# Altium schematic symbol library SR SCH Library V02.SchLib: 688 symbols (part 1 of 3)
Pins are listed as number, name and electrical type; pins without a type are passive.

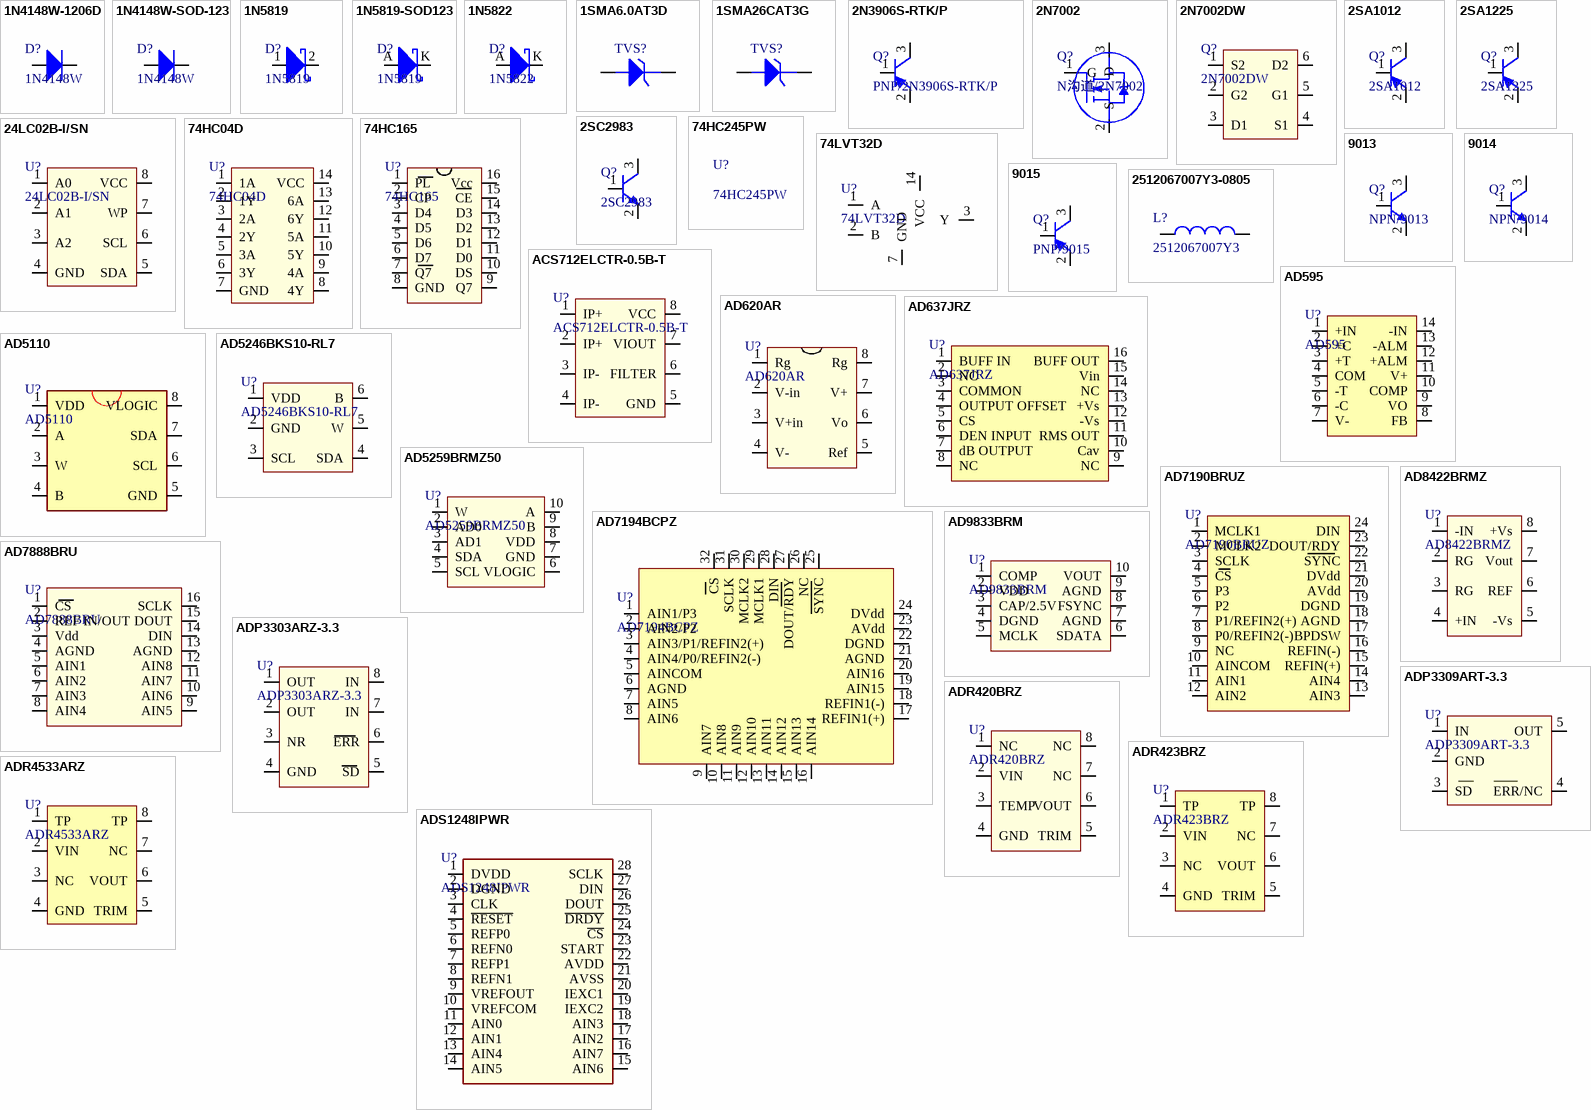
[diagram p0: symbols 1N4148W-1206D to ADS1248IPWR]

## 1N4148W-1206D
designator D?, comment 1N4148W
开关二极管，1N4148W，1206D; 料号: 10402-00001-4J; 品名: 开关二极管
footprint 1206D
pins: 1 A, 2 K

## 1N4148W-SOD-123
designator D?, comment 1N4148W
开关二极管，1N4148W，SOD-123; 料号: 10402-00002-4J; 品名: 开关二极管
footprint SOD-123
pins: A, K

## 1N5819
designator D?
肖特基二极管，1N5819，1206D; 料号: 10404-00002-1J; 品名: 肖特基二极管
footprint 1206D
pins: 1 A, 2 K

## 1N5819-SOD123
designator D?, comment 1N5819
肖特基二极管，1N5819，SOD123; 料号: 10404-00004-00; 品名: 肖特基二极管
footprint SOD-123
pins: A, K

## 1N5822
designator D?
肖特基二极管，1N5822，DO-214AC; 料号: 10404-00001-1J; 品名: 肖特基二极管
footprint DO-214AC(SMA) (SMA)
pins: A, K

## 1SMA6.0AT3D
designator TVS?  (value not drawn)
TVS管，1SMA6.0AT3D，DO214AC封装（SMA）; 料号: 10405-00035-00; 品名: TVS管
footprint DO-214AC
pins: 1, 2

## 1SMA26CAT3G
designator TVS?  (value not drawn)
TVS管，1SMA26CAT3G，DO214AC封装（SMA）; 料号: 10405-00033-00; 品名: TVS管
footprint DO-214AC
pins: 1, 2

## 2N3906S-RTK/P
designator Q?, comment PNP/2N3906S-RTK/P
PNP型三极管，2N3906S-RTK/P ，SOT-23; 料号: 10502-00003-00; 品名: PNP型三极管
footprint SOT-23
pins: 1 B, 2 E, 3 C

## 2N7002
designator Q?, comment N沟道/2N7002
N沟道场效应管，2N7002，SOT-23; 料号: 10503-00003-1H; 品名: N沟道场效应管
footprint SOT-23
pins: 1 G, 2 S, 3 D

## 2N7002DW
designator Q?
双N沟道场效应管,2N7002DW,SOT-363; 料号: 10503-00007-00; 品名: N沟道场效应管
footprint SOT363(SC706L)
pins: 1 S2, 2 G2, 3 D1, 4 S1, 5 G1, 6 D2

## 2SA1012
designator Q?
PNP型三极管，2SA1012 ，SOT-23; 料号: 10502-00004-00; 品名: PNP型三极管
footprint SOT-23
pins: 1 B, 2 E, 3 C

## 2SA1225
designator Q?
PNP型三极管，2SA1225 ，TO-252; 料号: 10502-00005-9J; 品名: 发光二级管
footprint TO-252 DPAK
pins: 1 B, 2 E, 3 C

## 2SC2983
designator Q?
NPN型三极管，2SC2983，TO-252; 料号: 10501-00004-9J; 品名: NPN型三极管
footprint TO-252 DPAK
pins: 1 B, 2 E, 3 C

## 24LC02B-I/SN
designator U?
IC，24LC02B-I/SN，SOP8; 料号: 10603-00002-1J; 品名: 存储器
footprint SOP8 (body:6mm)
pins: 1 A0, 2 A1, 3 A2, 4 GND, 5 SDA, 6 SCL, 7 WP, 8 VCC

## 74HC04D
designator U?
IC，74HC04D，SOP14; 料号: 10607-00004-9H; 品名: 逻辑芯片
footprint SOP14
pins: 1 1A, 2 1Y, 3 2A, 4 2Y, 5 3A, 6 3Y, 7 GND, 8 4Y, 9 4A, 10 5Y, 11 5A, 12 6Y, 13 6A, 14 VCC

## 74HC165
designator U?
IC，74HC165，SOP16; 料号: 10607-00005-9H; 品名: 逻辑芯片
footprint SOP16 (引脚中心距50mil)
pins: 1 PL, 2 CP, 3 D4, 4 D5, 5 D6, 6 D7, 7 Q7, 8 GND, 9 Q7, 10 DS, 11 D0, 12 D1, 13 D2, 14 D3, 15 CE, 16 Vcc

## 74HC245PW
designator U?
IC，74HC245PW，TSSOP20; 料号: 10607-00006-9H; 品名: 逻辑芯片
footprint TSSOP20 (Shrink Small Outline; 20 Leads; Body Width 4.4 mm; Pitch 0.65 mm)

## 74LVT32D
designator U?
IC，74LVT32D，SOP14; 料号: 10607-00003-9H; 品名: 逻辑芯片
footprint SOP14
pins: 1 A, 2 B, 3 Y, 7 GND, 14 VCC

## 9013
designator Q?, comment NPN/9013
NPN型三极管，9013，SOT－23; 料号: 10501-00003-00; 品名: NPN型三极管
footprint SOT-23
pins: 1 B, 2 E, 3 C

## 9014
designator Q?, comment NPN/9014
NPN型三极管，9014，SOT－23; 料号: 10501-00002-00; 品名: NPN型三极管
footprint SOT-23
pins: 1 B, 2 E, 3 C

## 9015
designator Q?, comment PNP/9015
PNP型三极管，9015，SOT－23; 料号: 10502-00002-00; 品名: PNP型三极管
footprint SOT-23
pins: 1 B, 2 E, 3 C

## 2512067007Y3-0805
designator L?, comment 2512067007Y3
磁珠，2512067007Y3,100MHz,0805; 料号: 10302-00003-00; 品名: 磁珠
footprint 0805C
pins: 1, 2

## ACS712ELCTR-0.5B-T
designator U?
IC，ACS712ELCTR-05B-T，SOP8; 料号: 10610-00004-00; 品名: 传感器
footprint SOP8 (body:6mm)
pins: 1 IP+, 2 IP+, 3 IP-, 4 IP-, 5 GND, 6 FILTER, 7 VIOUT, 8 VCC

## AD595
designator U?
IC，AD595，DIP14; 料号: 10602-00012-6H; 品名: 放大器
footprint DIP14
pins: 1 +IN, 2 +C, 3 +T, 4 COM, 5 -T, 6 -C, 7 V-, 8 FB, 9 VO, 10 COMP, 11 V+, 12 +ALM, 13 -ALM, 14 -IN

## AD620AR
designator U?
IC，AD620AR，SOP8; 料号: 10602-00018-6H; 品名: 放大器
footprint SOP8 (body:6mm)
pins: 1 Rg, 2 V-in, 3 V+in, 4 V-, 5 Ref, 6 Vo, 7 V+, 8 Rg

## AD637JRZ
designator U?
IC，AD637JRZ，SOP16; 料号: 10604-00024-00; 品名: 电源芯片
footprint SOP16 (引脚中心距50mil)
pins: 1 BUFF IN, 2 NC, 3 COMMON, 4 OUTPUT OFFSET, 5 CS, 6 DEN INPUT, 7 dB OUTPUT, 8 NC, 9 NC, 10 Cav, 11 RMS OUT, 12 -Vs, 13 +Vs, 14 NC, 15 Vin, 16 BUFF OUT

## AD5110
designator U?
IC，AD5110，LFCSP8; 料号: 10611-00009-6H; 品名: ASIC
footprint LFCSP8 (Footprint not found)
pins: 1 VDD, 2 A, 3 W, 4 B, 5 GND, 6 SCL, 7 SDA, 8 VLOGIC

## AD5246BKS10-RL7
designator U?
IC，AD5246BKS10-RL7，SC70; 料号: 10611-00008-6H; 品名: ASIC
footprint SC70
pins: 1 VDD, 2 GND, 3 SCL, 4 SDA, 5 W, 6 B

## AD5259BRMZ50
designator U?
IC,AD5259BRMZ50,TSSOP8; 料号: 10605-00007-00; 品名: 数据转换芯片
footprint MSOP10
pins: 1 W, 2 AD0, 3 AD1, 4 SDA, 5 SCL, 6 VLOGIC, 7 GND, 8 VDD, 9 B, 10 A

## AD7190BRUZ
designator U?
IC，AD7190BRUZ，TSSOP24; 料号: 10605-00004-6H; 品名: 数据转换芯片
footprint TSSOP24
pins: 1 MCLK1, 2 MCLK2, 3 SCLK, 4 CS, 5 P3, 6 P2, 7 P1/REFIN2(+), 8 P0/REFIN2(-), 9 NC, 10 AINCOM, 11 AIN1, 12 AIN2, 13 AIN3, 14 AIN4, 15 REFIN(+), 16 REFIN(-), 17 BPDSW, 18 AGND, 19 DGND, 20 AVdd, 21 DVdd, 22 SYNC, 23 DOUT/RDY, 24 DIN

## AD7194BCPZ
designator U?
IC，AD7194BCPZ，LFCSP32; 品名: 数据转换芯片; 料号: 10605-00003-6H
footprint LFCSP32
pins: 1 AIN1/P3, 2 AIN2/P2, 3 AIN3/P1/REFIN2(+), 4 AIN4/P0/REFIN2(-), 5 AINCOM, 6 AGND, 7 AIN5, 8 AIN6, 9 AIN7, 10 AIN8, 11 AIN9, 12 AIN10, 13 AIN11, 14 AIN12, 15 AIN13, 16 AIN14, 17 REFIN1(+), 18 REFIN1(-), 19 AIN15, 20 AIN16, 21 AGND, 22 DGND, 23 AVdd, 24 DVdd, 25 SYNC, 26 NC, 27 DOUT/RDY, 28 DIN, 29 MCLK1, 30 MCLK2, 31 SCLK, 32 CS

## AD7888BRU
designator U?
IC，AD7888BRU，TSSOP16; 料号: 10605-00005-6H; 品名: 数据转换芯片
footprint TSSOP16
pins: 1 CS, 2 REF IN/OUT, 3 Vdd, 4 AGND, 5 AIN1, 6 AIN2, 7 AIN3, 8 AIN4, 9 AIN5, 10 AIN6, 11 AIN7, 12 AIN8, 13 AGND, 14 DIN, 15 DOUT, 16 SCLK

## AD8422BRMZ
designator U?
IC，AD8422BRMZ，MSOP8; 料号: 10602-00005-6H; 品名: 放大器
footprint MSOP8
pins: 1 -IN, 2 RG, 3 RG, 4 +IN, 5 -Vs, 6 REF, 7 Vout, 8 +Vs

## AD9833BRM
designator U?
IC，AD9833BRM，MSOP10; 料号: 10611-00001-6H; 品名: ASIC
footprint MSOP10
pins: 1 COMP, 2 VDD, 3 CAP/2.5V, 4 DGND, 5 MCLK, 6 SDATA, 7 AGND, 8 FSYNC, 9 AGND, 10 VOUT

## ADP3303ARZ-3.3
designator U?
IC，ADP3303ARZ-3.3，SOP8; 料号: 10604-00006-6H
footprint SOP8 (body:6mm)
pins: 1 OUT, 2 OUT, 3 NR, 4 GND, 5 SD, 6 ERR, 7 IN, 8 IN

## ADP3309ART-3.3
designator U?
IC，ADP3309ART-3.3，SOT23-5; 料号: 10604-00012-00; 品名: 电源芯片
footprint SOT23-5
pins: 1 IN, 2 GND, 3 SD, 4 ERR/NC, 5 OUT

## ADR420BRZ
designator U?
IC，ADR420BRZ，SOP8; 料号: 10604-00021-6H; 品名: 电源芯片
footprint SOP8 (body:6mm)
pins: 1 NC, 2 VIN, 3 TEMP, 4 GND, 5 TRIM, 6 VOUT, 7 NC, 8 NC

## ADR423BRZ
designator U?
IC，ADR423BRZ，SOP8; 料号: 10604-00018-6H; 品名: 电源芯片
footprint SOP8 (body:6mm)
pins: 1 TP, 2 VIN, 3 NC, 4 GND, 5 TRIM, 6 VOUT, 7 NC, 8 TP

## ADR4533ARZ
designator U?
IC，ADR4533ARZ，SOP8; 料号: 10604-00020-6H; 品名: 电源芯片
footprint SOP8 (body:6mm)
pins: 1 TP, 2 VIN, 3 NC, 4 GND, 5 TRIM, 6 VOUT, 7 NC, 8 TP

## ADS1248IPWR
designator U?
IC，ADS1248IPWR，SSOP28; 料号: 10605-00006-9G; 品名: 数据转换芯片
footprint SSOP28
pins: 1 DVDD, 2 DGND, 3 CLK, 4 ~{RESET}, 5 REFP0, 6 REFN0, 7 REFP1, 8 REFN1, 9 VREFOUT, 10 VREFCOM, 11 AIN0, 12 AIN1 (power), 13 AIN4, 14 AIN5, 15 AIN6, 16 AIN7, 17 AIN2, 18 AIN3, 19 IEXC2, 20 IEXC1, 21 AVSS, 22 AVDD, 23 START, 24 ~{CS} (power), 25 ~{DRDY}, 26 DOUT, 27 DIN, 28 SCLK

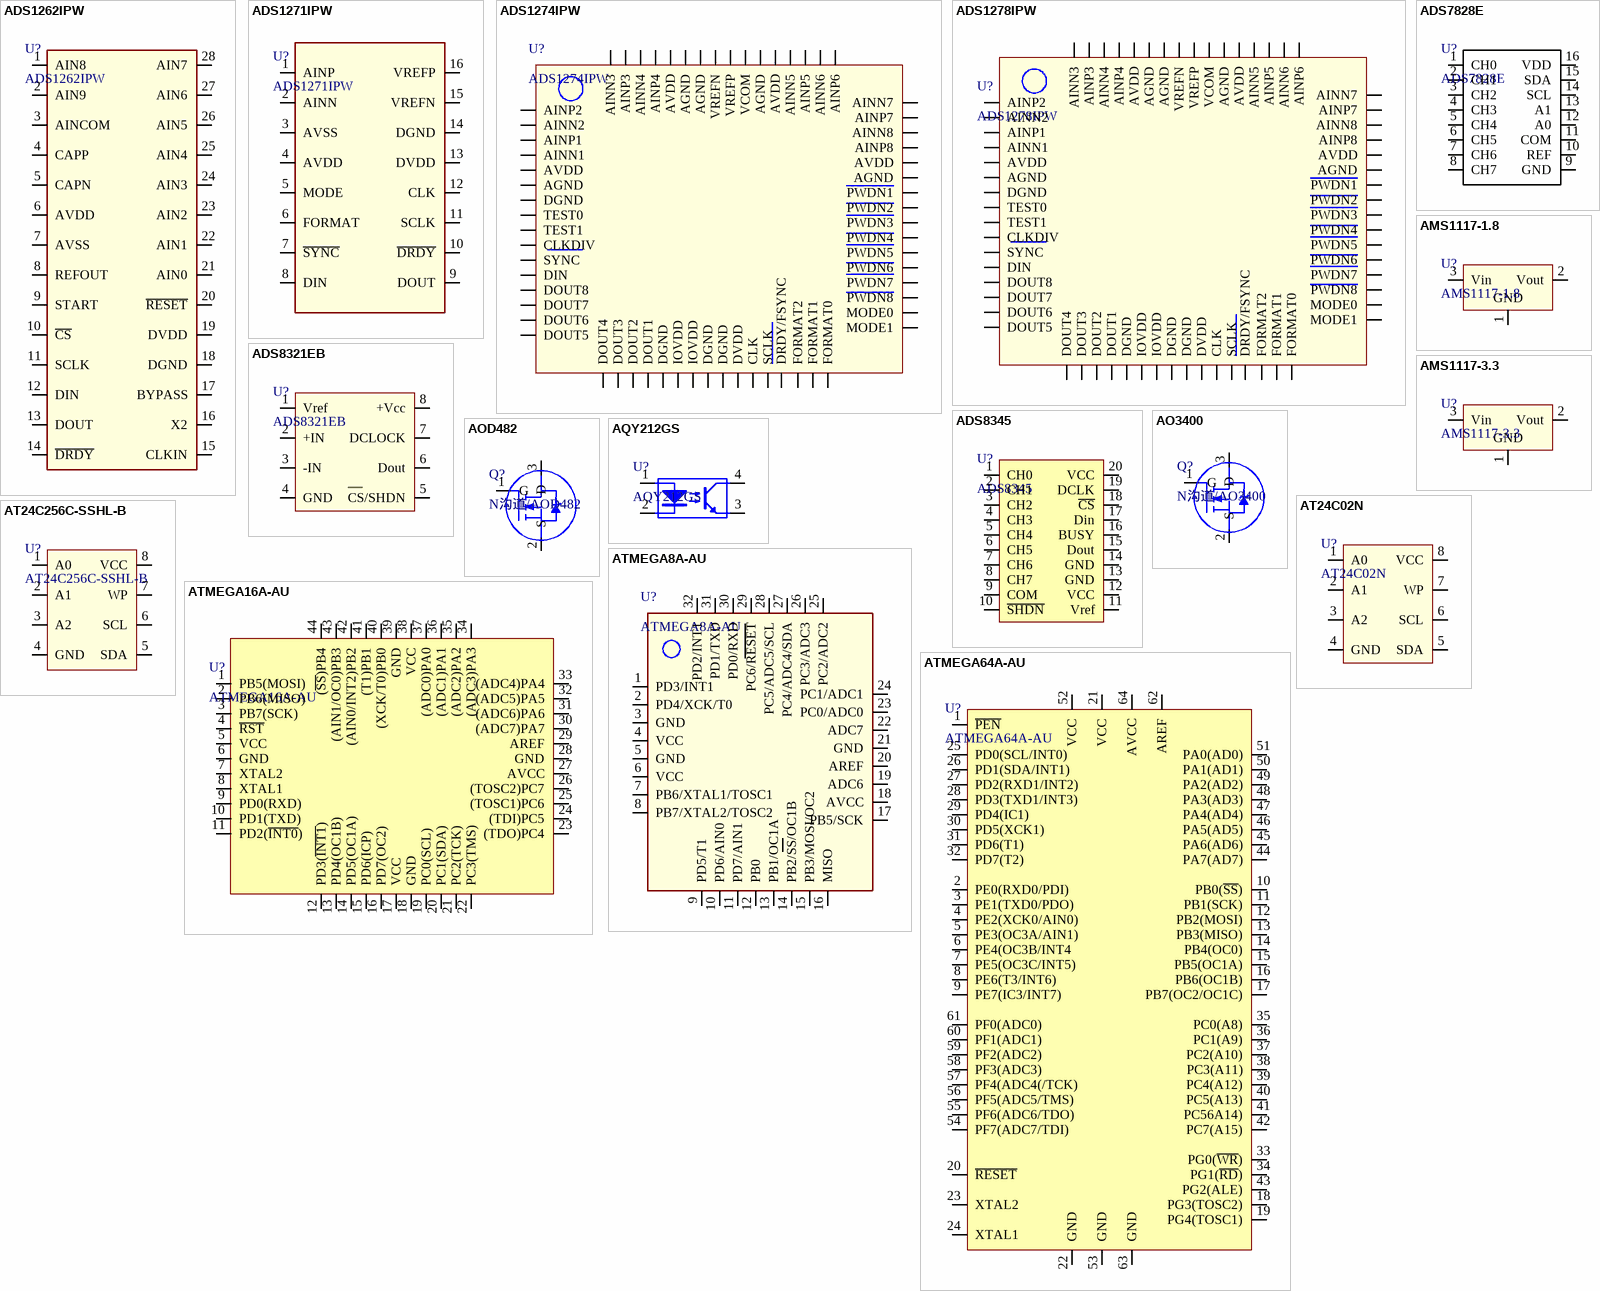
[diagram p1: symbols ADS1262IPW to ATMEGA64A-AU]

## ADS1262IPW
designator U?
IC,ADS1262IPW,TSSOP28; 料号: 10605-00013-9G; 品名: 数据转换芯片
footprint TSSOP28
pins: 1 AIN8, 2 AIN9 (power), 3 AINCOM, 4 CAPP, 5 CAPN, 6 AVDD, 7 AVSS, 8 REFOUT, 9 START, 10 ~{CS}, 11 SCLK, 12 DIN, 13 DOUT, 14 ~{DRDY}, 15 CLKIN, 16 X2, 17 BYPASS, 18 DGND, 19 DVDD, 20 ~{RESET}, 21 AIN0, 22 AIN1, 23 AIN2, 24 AIN3, 25 AIN4, 26 AIN5, 27 AIN6, 28 AIN7

## ADS1271IPW
designator U?
IC,ADS1271IPW,SSOP16; 料号: 10605-00008-9G; 品名: 数据转换芯片
footprint SSOP16
pins: 1 AINP, 2 AINN (power), 3 AVSS, 4 AVDD, 5 MODE, 6 FORMAT, 7 ~{SYNC}, 8 DIN, 9 DOUT, 10 ~{DRDY}, 11 SCLK, 12 CLK, 13 DVDD, 14 DGND, 15 VREFN, 16 VREFP

## ADS1274IPW
designator U?
IC,ADS1274IPW,TQFP64; 料号: 10605-00010-9G; 品名: 数据转换芯片
footprint TQFP64
pins: 1 AINP2, 2 AINN2, 3 AINP1, 4 AINN1, 5 AVDD, 6 AGND, 7 DGND, 8 TEST0, 9 TEST1, 10 CLKDIV, 11 SYNC, 12 DIN, 13 DOUT8, 14 DOUT7, 15 DOUT6, 16 DOUT5, 17 DOUT4, 18 DOUT3, 19 DOUT2, 20 DOUT1, 21 DGND, 22 IOVDD, 23 IOVDD, 24 DGND, 25 DGND, 26 DVDD, 27 CLK, 28 SCLK, 29 DRDY/FSYNC, 30 FORMAT2, 31 FORMAT1, 32 FORMAT0, 33  MODE1, 34  MODE0, 35 PWDN8, 36 PWDN7, 37 PWDN6, 38 PWDN5, 39 PWDN4, 40 PWDN3, 41 PWDN2, 42 PWDN1, 43 AGND, 44 AVDD, 45 AINP8, 46 AINN8, 47 AINP7, 48 AINN7, 49 AINP6, 50 AINN6, 51 AINP5, 52 AINN5, 53 AVDD, 54 AGND, 55 VCOM, 56 VREFP, 57 VREFN, 58 AGND, 59 AGND, 60 AVDD, 61 AINP4, 62 AINN4, 63 AINP3, 64 AINN3

## ADS1278IPW
designator U?
IC,ADS1278IPW,TQFP64; 料号: 10605-00009-9G; 品名: 数据转换芯片
footprint TQFP64
pins: 1 AINP2, 2 AINN2, 3 AINP1, 4 AINN1, 5 AVDD, 6 AGND, 7 DGND, 8 TEST0, 9 TEST1, 10 CLKDIV, 11 SYNC, 12 DIN, 13 DOUT8, 14 DOUT7, 15 DOUT6, 16 DOUT5, 17 DOUT4, 18 DOUT3, 19 DOUT2, 20 DOUT1, 21 DGND, 22 IOVDD, 23 IOVDD, 24 DGND, 25 DGND, 26 DVDD, 27 CLK, 28 SCLK, 29 DRDY/FSYNC, 30 FORMAT2, 31 FORMAT1, 32 FORMAT0, 33  MODE1, 34  MODE0, 35 PWDN8, 36 PWDN7, 37 PWDN6, 38 PWDN5, 39 PWDN4, 40 PWDN3, 41 PWDN2, 42 PWDN1, 43 AGND, 44 AVDD, 45 AINP8, 46 AINN8, 47 AINP7, 48 AINN7, 49 AINP6, 50 AINN6, 51 AINP5, 52 AINN5, 53 AVDD, 54 AGND, 55 VCOM, 56 VREFP, 57 VREFN, 58 AGND, 59 AGND, 60 AVDD, 61 AINP4, 62 AINN4, 63 AINP3, 64 AINN3

## ADS7828E
designator U?
IC，ADS7828E,TSSOP-16; 料号: 10605-00012-00; 品名: 数据转换芯片
footprint TSSOP16
pins: 1 CH0 (oc), 2 CH1 (oc), 3 CH2 (oc), 4 CH3 (oc), 5 CH4 (oc), 6 CH5 (oc), 7 CH6 (oc), 8 CH7 (oc), 9 GND (oc), 10 REF (oc), 11 COM (oc), 12 A0 (oc), 13 A1 (oc), 14 SCL (oc), 15 SDA (oc), 16 VDD (oc)

## ADS8321EB
designator U?
IC，ADS8321EB，MSOP8; 料号: 10605-00002-9G; 品名: 数据转换芯片
footprint MSOP8
pins: 1 Vref, 2 +IN, 3 -IN, 4 GND, 5 CS/SHDN, 6 Dout, 7 DCLOCK, 8 +Vcc

## ADS8345
designator U?
IC，ADS8345,SSOP20; 料号: 10605-00011-00; 品名: 数据转换芯片
footprint SSOP20
pins: 1 CH0, 2 CH1, 3 CH2, 4 CH3, 5 CH4, 6 CH5, 7 CH6, 8 CH7, 9 COM, 10 ~{SHDN}, 11 Vref, 12 VCC, 13 GND, 14 GND, 15 Dout, 16 BUSY, 17 Din, 18 ~{CS}, 19 DCLK, 20 VCC

## AMS1117-1.8
designator U?
IC，AMS1117-1.8，SOT223; 料号: 10604-00010-6K; 品名: 电源芯片
footprint SOT223
pins: 1 GND, 2 Vout, 3 Vin

## AMS1117-3.3
designator U?
IC，AMS1117-3.3，SOT223; 料号: 10604-00011-6K; 品名: 电源芯片
footprint SOT223
pins: 1 GND, 2 Vout, 3 Vin

## AO3400
designator Q?, comment N沟道/AO3400
N沟道场效应管，AO3400，SOT-23; 料号: 10503-00004-7J; 品名: N沟道场效应管
footprint SOT-23
pins: 1 G, 2 S, 3 D

## AOD482
designator Q?, comment N沟道/AOD482
N沟道场效应管,AOD482,TO-252; 料号: 10503-00006-00; 品名: N沟道MOSFET
footprint TO-252 DPAK
pins: 1 G, 2 S, 3 D

## AQY212GS
designator U?
光耦，AQY212GS，SOP4-2.54; 料号: 10609-00003-40; 品名: 光耦
footprint SOP4-2.54 (引脚中心距100mil)
pins: 1 LED Anode, 2 LED Cathode, 3 Emitter, 4 Collector

## AT24C02N
designator U?
IC，AT24C02N，SOP8; 料号: 10603-00003-5H; 品名: 存储器
footprint SOP8 (body:6mm)
pins: 1 A0, 2 A1, 3 A2, 4 GND, 5 SDA, 6 SCL, 7 WP, 8 VCC

## AT24C256C-SSHL-B
designator U?
IC，AT24C256C-SSHL-B，SOP8; 料号: 10603-00001-5H; 品名: 存储器
footprint SOP8 (body:6mm)
pins: 1 A0, 2 A1, 3 A2, 4 GND, 5 SDA, 6 SCL, 7 WP, 8 VCC

## ATMEGA8A-AU
designator U?
MCU，ATMEGA8A-AU，TQFP32; 料号: 10601-00004-5H; 品名: MCU
footprint TQFP32
pins: 1 PD3/INT1, 2 PD4/XCK/T0, 3 GND, 4 VCC, 5 GND, 6 VCC, 7 PB6/XTAL1/TOSC1, 8 PB7/XTAL2/TOSC2, 9 PD5/T1, 10 PD6/AIN0, 11 PD7/AIN1, 12 PB0, 13 PB1/OC1A, 14 PB2/SS/OC1B, 15 PB3/MOSI/OC2, 16 MISO, 17 PB5/SCK, 18 AVCC, 19 ADC6, 20 AREF, 21 GND, 22 ADC7, 23 PC0/ADC0, 24 PC1/ADC1, 25 PC2/ADC2, 26 PC3/ADC3, 27 PC4/ADC4/SDA, 28 PC5/ADC5/SCL, 29 PC6/RESET, 30 PD0/RXD, 31 PD1/TXD, 32 PD2/INT1

## ATMEGA16A-AU
designator U?
MCU，ATMEGA16A-AU，TQFP44; 料号: 10601-00005-5H; 品名: MCU
footprint TQFP44
pins: 1 PB5(MOSI), 2 PB6(MISO), 3 PB7(SCK), 4 ~{RST}, 5 VCC, 6 GND, 7 XTAL2, 8 XTAL1, 9 PD0(RXD), 10 PD1(TXD), 11 PD2(~{INT0}), 12 PD3(~{INT1}), 13 PD4(OC1B), 14 PD5(OC1A), 15 PD6(ICP), 16 PD7(OC2), 17 VCC, 18 GND, 19 PC0(SCL), 20 PC1(SDA), 21 PC2(TCK), 22 PC3(TMS), 23 (TDO)PC4, 24 (TDI)PC5, 25 (TOSC1)PC6, 26 (TOSC2)PC7, 27 AVCC, 28 GND, 29 AREF, 30 (ADC7)PA7, 31 (ADC6)PA6, 32 (ADC5)PA5, 33 (ADC4)PA4, 34 (ADC3)PA3, 35 (ADC2)PA2, 36 (ADC1)PA1, 37 (ADC0)PA0, 38 VCC, 39 GND, 40 (XCK/T0)PB0, 41 (T1)PB1, 42 (AIN0/INT2)PB2, 43 (AIN1/OC0)PB3, 44 (~{SS})PB4

## ATMEGA64A-AU
designator U?
MCU，ATMEGA64A-AU，TQFP64; 料号: 10601-00006-5H; 品名: MCU
footprint TQFP64
pins: 1 ~{PEN}, 2 PE0(RXD0/PDI), 3 PE1(TXD0/PDO), 4 PE2(XCK0/AIN0), 5 PE3(OC3A/AIN1), 6 PE4(OC3B/INT4, 7 PE5(OC3C/INT5), 8 PE6(T3/INT6), 9 PE7(IC3/INT7), 10 PB0(~{SS}), 11 PB1(SCK), 12 PB2(MOSI), 13 PB3(MISO), 14 PB4(OC0), 15 PB5(OC1A), 16 PB6(OC1B), 17 PB7(OC2/OC1C), 18 PG3(TOSC2), 19 PG4(TOSC1), 20 ~{RESET}, 21 VCC, 22 GND, 23 XTAL2, 24 XTAL1, 25 PD0(SCL/INT0), 26 PD1(SDA/INT1), 27 PD2(RXD1/INT2), 28 PD3(TXD1/INT3), 29 PD4(IC1), 30 PD5(XCK1), 31 PD6(T1), 32 PD7(T2), 33 PG0(~{WR}), 34 PG1(~{RD}), 35 PC0(A8), 36 PC1(A9), 37 PC2(A10), 38 PC3(A11), 39 PC4(A12), 40 PC5(A13), 41 PC56A14), 42 PC7(A15), 43 PG2(ALE), 44 PA7(AD7), 45 PA6(AD6), 46 PA5(AD5), 47 PA4(AD4), 48 PA3(AD3), 49 PA2(AD2), 50 PA1(AD1), 51 PA0(AD0), 52 VCC, 53 GND, 54 PF7(ADC7/TDI), 55 PF6(ADC6/TDO), 56 PF5(ADC5/TMS), 57 PF4(ADC4(/TCK), 58 PF3(ADC3), 59 PF2(ADC2), 60 PF1(ADC1), 61 PF0(ADC0), 62 AREF, 63 GND, 64 AVCC

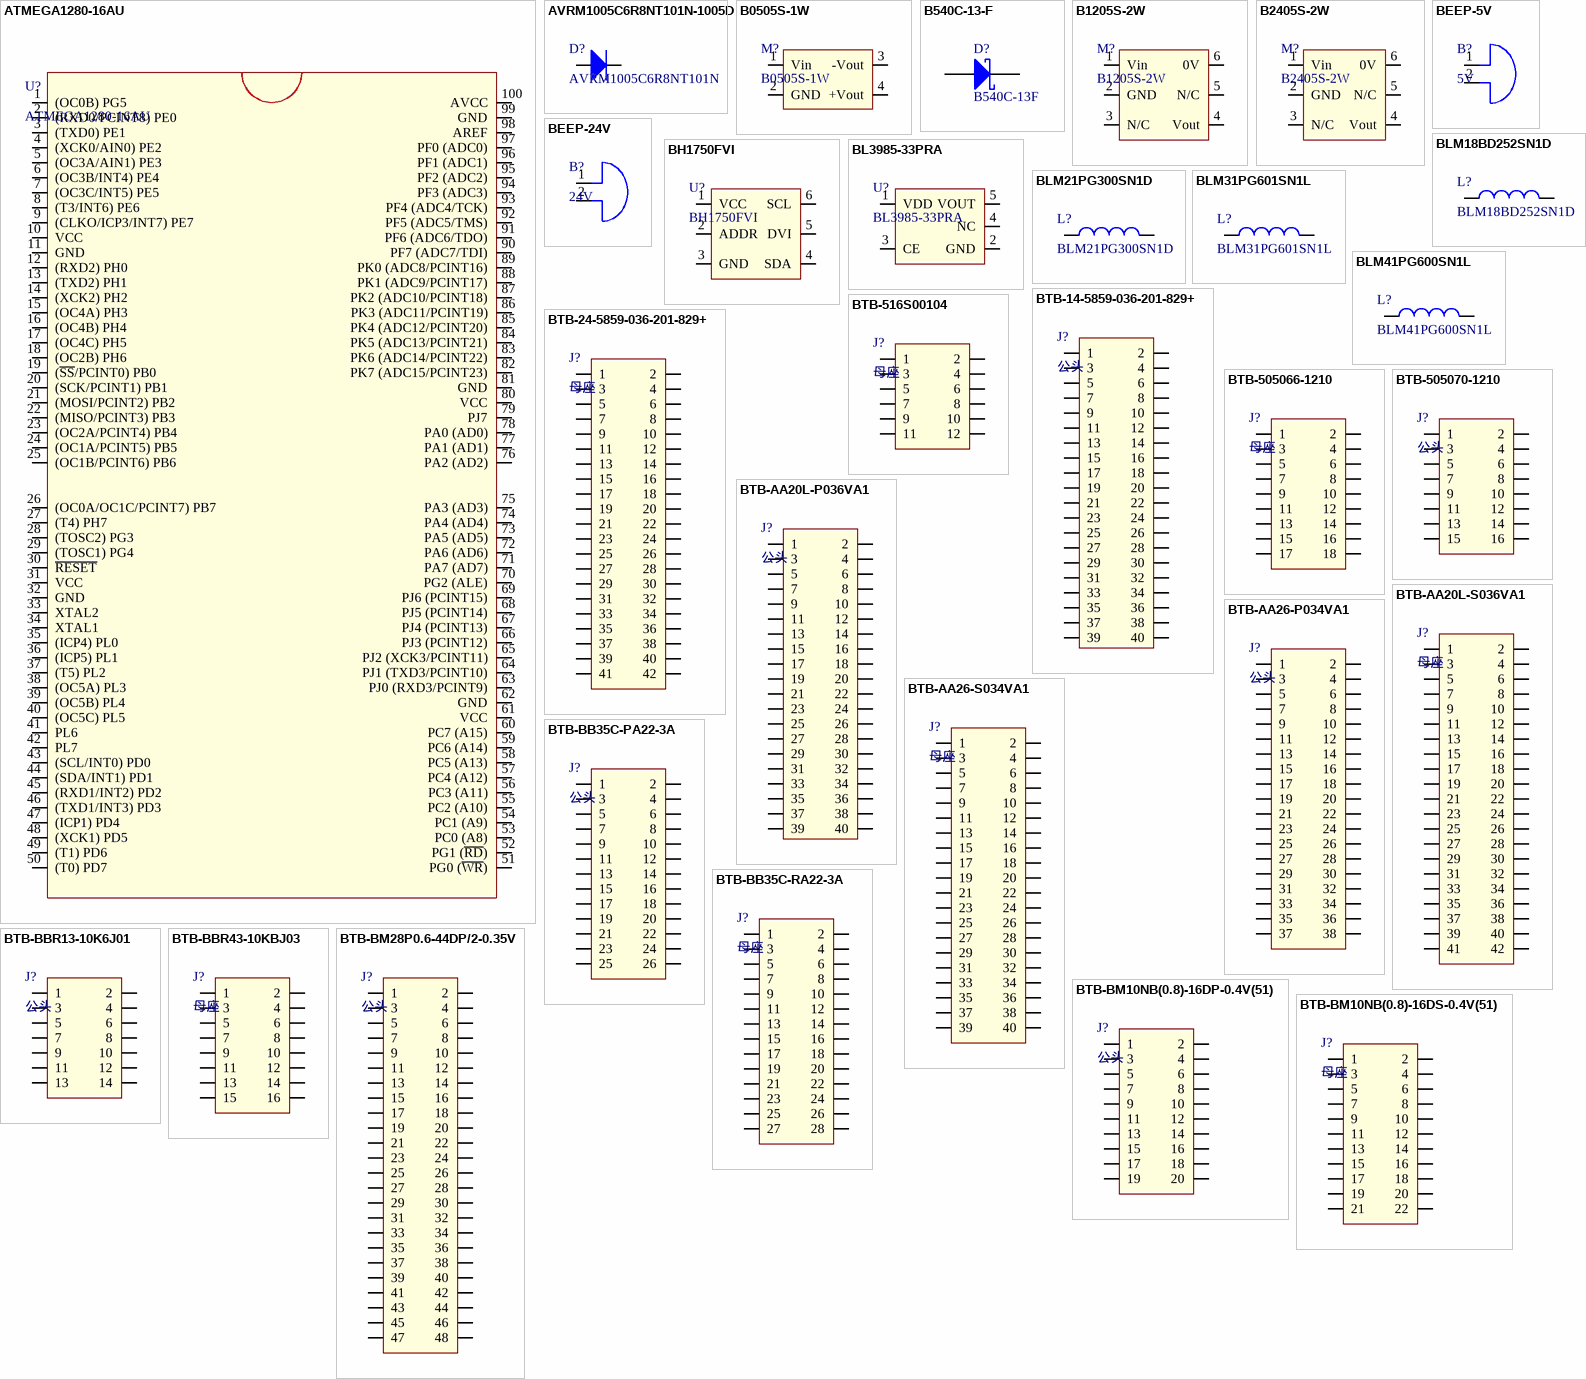
[diagram p2: symbols ATMEGA1280-16AU to BTB-BM28P0.6-44DP/2-0.35V]

## ATMEGA1280-16AU
designator U?
MCU，ATMEGA1280-16AU，TQFP100; 料号: 10601-00007-5H; 品名: MCU
footprint TQFP100
pins: 1 (OC0B) PG5, 2 (RXD0/PCINT8) PE0, 3 (TXD0) PE1, 4 (XCK0/AIN0) PE2, 5 (OC3A/AIN1) PE3, 6 (OC3B/INT4) PE4, 7 (OC3C/INT5) PE5, 8 (T3/INT6) PE6, 9 (CLKO/ICP3/INT7) PE7, 10 VCC, 11 GND, 12 (RXD2) PH0, 13 (TXD2) PH1, 14 (XCK2) PH2, 15 (OC4A) PH3, 16 (OC4B) PH4, 17 (OC4C) PH5, 18 (OC2B) PH6, 19 (~{SS}/PCINT0) PB0, 20 (SCK/PCINT1) PB1, 21 (MOSI/PCINT2) PB2, 22 (MISO/PCINT3) PB3, 23 (OC2A/PCINT4) PB4, 24 (OC1A/PCINT5) PB5, 25 (OC1B/PCINT6) PB6, 26 (OC0A/OC1C/PCINT7) PB7, 27 (T4) PH7, 28 (TOSC2) PG3, 29 (TOSC1) PG4, 30 ~{RESET}, 31 VCC, 32 GND, 33 XTAL2, 34 XTAL1, 35 (ICP4) PL0, 36 (ICP5) PL1, 37 (T5) PL2, 38 (OC5A) PL3, 39 (OC5B) PL4, 40 (OC5C) PL5, 41 PL6, 42 PL7, 43 (SCL/INT0) PD0, 44 (SDA/INT1) PD1, 45 (RXD1/INT2) PD2, 46 (TXD1/INT3) PD3, 47 (ICP1) PD4, 48 (XCK1) PD5, 49 (T1) PD6, 50 (T0) PD7, 51 PG0 (~{WR}), 52 PG1 (~{RD}), 53 PC0 (A8), 54 PC1 (A9), 55 PC2 (A10), 56 PC3 (A11), 57 PC4 (A12), 58 PC5 (A13), 59 PC6 (A14), 60 PC7 (A15), 61 VCC, 62 GND, 63 PJ0 (RXD3/PCINT9), 64 PJ1 (TXD3/PCINT10), 65 PJ2 (XCK3/PCINT11), 66 PJ3 (PCINT12), 67 PJ4 (PCINT13), 68 PJ5 (PCINT14), 69 PJ6 (PCINT15), 70 PG2 (ALE), 71 PA7 (AD7), 72 PA6 (AD6), 73 PA5 (AD5), 74 PA4 (AD4), 75 PA3 (AD3), 76 PA2 (AD2), 77 PA1 (AD1), 78 PA0 (AD0), 79 PJ7, 80 VCC, 81 GND, 82 PK7 (ADC15/PCINT23), 83 PK6 (ADC14/PCINT22), 84 PK5 (ADC13/PCINT21), 85 PK4 (ADC12/PCINT20), 86 PK3 (ADC11/PCINT19), 87 PK2 (ADC10/PCINT18), 88 PK1 (ADC9/PCINT17), 89 PK0 (ADC8/PCINT16), 90 PF7 (ADC7/TDI), 91 PF6 (ADC6/TDO), 92 PF5 (ADC5/TMS), 93 PF4 (ADC4/TCK), 94 PF3 (ADC3), 95 PF2 (ADC2), 96 PF1 (ADC1), 97 PF0 (ADC0), 98 AREF, 99 GND, 100 AVCC

## AVRM1005C6R8NT101N-1005D
designator D?, comment AVRM1005C6R8NT101N
TVS管，AVRM1005C6R8NT101N,D1005; 料号: 10405-00007-00; 品名: TVS管
footprint 1005D
pins: 1 A, 2 K

## B0505S-1W
designator M?
DC-DC模块，MORNSUN B0505S-1W，隔离稳压5V转5V; 料号: 11101-00003-2L; 品名: DC-DC模块
footprint B0505S-1W
pins: 1 Vin, 2 GND, 3 -Vout, 4 +Vout

## B540C-13-F
designator D?, comment B540C-13F
肖特基二极管, 40V/5A, SMC（DO-214AB）封装; 料号: 10403-00014-00; 品名: 肖特基二极管
footprint SMC
pins: 1, 2

## B1205S-2W
designator M?
DC-DC模块，MORNSUN B1205S-2W，隔离降压12V转5V; 料号: 11101-00004-2L; 品名: DC-DC模块
footprint B1205S-2W
pins: 1 Vin, 2 GND, 3 N/C, 4 Vout, 5 N/C, 6 0V

## B2405S-2W
designator M?
DC-DC模块，MORNSUN B2405S-2W，隔离降压24V转5V; 料号: 11101-00005-2L; 品名: DC-DC模块
footprint B2405S-2W (DC模块)
pins: 1 Vin, 2 GND, 3 N/C, 4 Vout, 5 N/C, 6 0V

## BEEP-5V
designator B?, comment 5V
Ф11.8*9.5，DC5V; 料号: 11302-00002-00; 品名: 蜂鸣器
footprint BUZZER
pins: 1, 2

## BEEP-24V
designator B?, comment 24V
蜂鸣器，Ф11.8*9.5，DC24V; 料号: 11302-00001-00; 品名: 蜂鸣器
footprint BUZZER
pins: 1, 2

## BH1750FVI
designator U?
IC，BH1750FVI，WSOF6I; 料号: 10610-00002-6G; 品名: 传感器
footprint WSOF6I
pins: 1 VCC, 2 ADDR, 3 GND, 4 SDA, 5 DVI, 6 SCL

## BL3985-33PRA
designator U?
IC，BL3985-33PRA，SOP23-5; 料号: 10604-00013-00; 品名: 电源芯片
footprint SOT23-5
pins: 1 VDD, 2 GND, 3 CE, 4 NC, 5 VOUT

## BLM18BD252SN1D
designator L?
磁珠,BLM18BD252SN1D,100MHz,2500R,0603; 料号: 10302-25012-00; 品名: 磁珠
footprint 0603D
pins: 1, 2

## BLM21PG300SN1D
designator L?
磁珠，BLM21PG300SN1D,100MHz,30R,0805; 料号: 10302-03003-00; 品名: 磁珠
footprint 0805L
pins: 1, 2

## BLM31PG601SN1L
designator L?
磁珠,BLM31PG601SN1L,100MHz,600R,0603; 料号: 10302-60002-00; 品名: 磁珠
footprint 0603D
pins: 1, 2

## BLM41PG600SN1L
designator L?
BLM41PG600SN1L，60ohm@100MHz，6A，1806; 料号: 10302-06004-00; 品名: 磁珠
pins: 1, 2

## BTB-14-5859-036-201-829+
designator J?, comment 公头
BTB连接器,14-5859-036-201-829+,36PIN公头,0.35mm; 料号: 10703-00002-7L; 品名: 板对板连接器
footprint 36pin公头
pins: 1, 2, 3, 4, 5, 6, 7, 8, 9, 10, 11, 12, 13, 14, 15, 16, 17, 18, 19, 20, 21, 22, 23, 24, 25, 26, 27, 28, 29, 30, 31, 32, 33, 34, 35, 36, 37, 38, 39, 40

## BTB-24-5859-036-201-829+
designator J?, comment 母座
BTB连接器,24-5859-036-201-829+,36PIN母座,0.35mm; 料号: 10703-00001-7L; 品名: 板对板连接器
footprint 36PIN母头 (J?)
pins: 1, 2, 3, 4, 5, 6, 7, 8, 9, 10, 11, 12, 13, 14, 15, 16, 17, 18, 19, 20, 21, 22, 23, 24, 25, 26, 27, 28, 29, 30, 31, 32, 33, 34, 35, 36, 37, 38, 39, 40, 41, 42

## BTB-516S00104
designator J?, comment 母座
BTB连接器,516S00104,6PIN母座,0.35mm; 料号: 10703-00013-9L; 品名: 板对板连接器
footprint 6PIN母头
pins: 1, 2, 3, 4, 5, 6, 7, 8, 9, 10, 11, 12

## BTB-505066-1210
designator J?, comment 母座
BTB连接器,505066-1210,12PIN母座,0.35mm; 料号: 10703-00011-8L; 品名: 板对板连接器
footprint 12PIN母头
pins: 1, 2, 3, 4, 5, 6, 7, 8, 9, 10, 11, 12, 13, 14, 15, 16, 17, 18

## BTB-505070-1210
designator J?, comment 公头
BTB连接器,505070-1210,12PIN公头,0.35mm; 料号: 10703-00012-8L; 品名: 板对板连接器
footprint 12PIN公头
pins: 1, 2, 3, 4, 5, 6, 7, 8, 9, 10, 11, 12, 13, 14, 15, 16

## BTB-AA20L-P036VA1
designator J?, comment 公头
BTB连接器,AA20L-P036VA1,36PIN公头,0.35mm; 料号: 10703-00004-6L; 品名: 板对板连接器
footprint 36pin公头
pins: 1, 2, 3, 4, 5, 6, 7, 8, 9, 10, 11, 12, 13, 14, 15, 16, 17, 18, 19, 20, 21, 22, 23, 24, 25, 26, 27, 28, 29, 30, 31, 32, 33, 34, 35, 36, 37, 38, 39, 40

## BTB-AA20L-S036VA1
designator J?, comment 母座
BTB连接器,AA20L-S036VA1,36PIN母座,0.35mm; 料号: 10703-00003-6L; 品名: 板对板连接器
footprint 36PIN母头 (J?)
pins: 1, 2, 3, 4, 5, 6, 7, 8, 9, 10, 11, 12, 13, 14, 15, 16, 17, 18, 19, 20, 21, 22, 23, 24, 25, 26, 27, 28, 29, 30, 31, 32, 33, 34, 35, 36, 37, 38, 39, 40, 41, 42

## BTB-AA26-P034VA1
designator J?, comment 公头
BTB连接器,AA26-P034VA1,34PIN公头,0.35mm; 料号: 10703-00006-6L; 品名: 板对板连接器
footprint 34PIN公头 (J?)
pins: 1, 2, 3, 4, 5, 6, 7, 8, 9, 10, 11, 12, 13, 14, 15, 16, 17, 18, 19, 20, 21, 22, 23, 24, 25, 26, 27, 28, 29, 30, 31, 32, 33, 34, 35, 36, 37, 38

## BTB-AA26-S034VA1
designator J?, comment 母座
BTB连接器,AA26-S034VA1,34PIN母座,0.35mm; 料号: 10703-00005-6L; 品名: 板对板连接器
footprint 34PIN母头 (J?)
pins: 1, 2, 3, 4, 5, 6, 7, 8, 9, 10, 11, 12, 13, 14, 15, 16, 17, 18, 19, 20, 21, 22, 23, 24, 25, 26, 27, 28, 29, 30, 31, 32, 33, 34, 35, 36, 37, 38, 39, 40

## BTB-BB35C-PA22-3A
designator J?, comment 公头
BTB连接器,BB35C-PA22-3A,22PIN公头,0.35mm; 料号: 10703-00010-4L; 品名: 板对板连接器
footprint 22PIN公头
pins: 1, 2, 3, 4, 5, 6, 7, 8, 9, 10, 11, 12, 13, 14, 15, 16, 17, 18, 19, 20, 21, 22, 23, 24, 25, 26

## BTB-BB35C-RA22-3A
designator J?, comment 母座
BTB连接器,BB35C-RA22-3A,22PIN母座,0.35mm; 料号: 10703-00009-4L; 品名: 板对板连接器
footprint 22PIN母头
pins: 1, 2, 3, 4, 5, 6, 7, 8, 9, 10, 11, 12, 13, 14, 15, 16, 17, 18, 19, 20, 21, 22, 23, 24, 25, 26, 27, 28

## BTB-BBR13-10K6J01
designator J?, comment 公头
BTB连接器,BBR13-10K6J01，10PIN公头，0.4mm; 料号: 10703-00017-00; 品名: 板对板连接器
footprint 10PIN公头
pins: 1, 2, 3, 4, 5, 6, 7, 8, 9, 10, 11, 12, 13, 14

## BTB-BBR43-10KBJ03
designator J?, comment 母座
BTB连接器,BBR43-10KBJ03，10PIN母座，0.4mm; 料号: 10703-00016-00; 品名: 板对板连接器
footprint 10PIN母头
pins: 1, 2, 3, 4, 5, 6, 7, 8, 9, 10, 11, 12, 13, 14, 15, 16

## BTB-BM10NB(0.8)-16DP-0.4V(51)
designator J?, comment 公头
BTB连接器,BM10NB(0.8)-16DP-0.4V(51),16PIN公头，0.4mm; 料号: 10703-00015-00; 品名: 板对板连接器
footprint 16PIN公头
pins: 1, 2, 3, 4, 5, 6, 7, 8, 9, 10, 11, 12, 13, 14, 15, 16, 17, 18, 19, 20

## BTB-BM10NB(0.8)-16DS-0.4V(51)
designator J?, comment 母座
BTB连接器,BM10NB(0.8)-16DS-0.4V(51),16PIN母座，0.4mm; 料号: 10703-00014-00; 品名: 板对板连接器
footprint 16PIN母头
pins: 1, 2, 3, 4, 5, 6, 7, 8, 9, 10, 11, 12, 13, 14, 15, 16, 17, 18, 19, 20, 21, 22

## BTB-BM28P0.6-44DP/2-0.35V
designator J?, comment 公头
BTB连接器,BM28P0.6-44DP/2-0.35V，44PIN公头,0.35mm; 料号: 10703-00008-5L; 品名: 板对板连接器
footprint 44PIN公头
pins: 1, 2, 3, 4, 5, 6, 7, 8, 9, 10, 11, 12, 13, 14, 15, 16, 17, 18, 19, 20, 21, 22, 23, 24, 25, 26, 27, 28, 29, 30, 31, 32, 33, 34, 35, 36, 37, 38, 39, 40, 41, 42, 43, 44, 45, 46, 47, 48

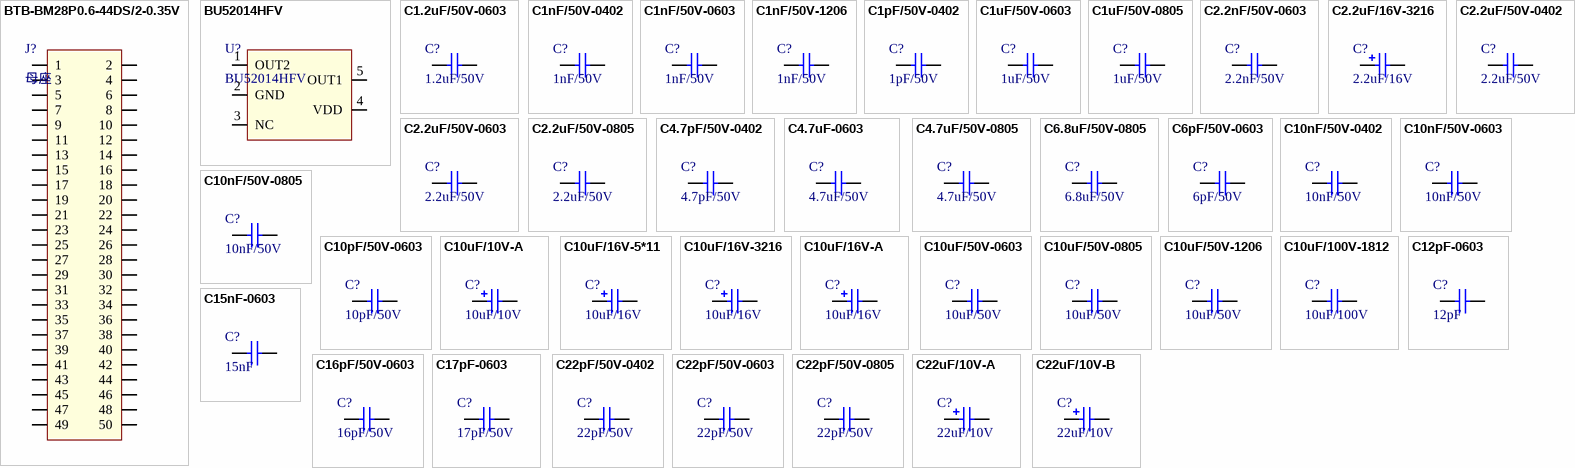
[diagram p3: symbols BTB-BM28P0.6-44DS/2-0.35V to C22uF/10V-B]

## BTB-BM28P0.6-44DS/2-0.35V
designator J?, comment 母座
BTB连接器,BM28P0.6-44DS/2-0.35V,44PIN母座,0.35mm; 料号: 10703-00007-5L; 品名: 板对板连接器
footprint 44PIN母头
pins: 1, 2, 3, 4, 5, 6, 7, 8, 9, 10, 11, 12, 13, 14, 15, 16, 17, 18, 19, 20, 21, 22, 23, 24, 25, 26, 27, 28, 29, 30, 31, 32, 33, 34, 35, 36, 37, 38, 39, 40, 41, 42, 43, 44, 45, 46, 47, 48, 49, 50

## BU52014HFV
designator U?
IC，BU52014HFV，HVSOF5; 料号: 10610-00005-6G; 品名: 传感器
footprint HVSOF5
pins: 1 OUT2, 2 GND, 3 NC, 4 VDD, 5 OUT1

## C1.2uF/50V-0603
designator C?, comment 1.2uF/50V
瓷片电容,1.2uF,10%,X7R,50V,0603; 料号: 10201-12046-00; 品名: 瓷片电容
footprint 0603C
pins: 1, 2

## C1nF/50V-0402
designator C?, comment 1nF/50V
瓷片电容,1nF,5%,X7R,50V,0402; 料号: 10201-10011-00; 品名: 瓷片电容
footprint 0402C (Chip Capacitor; Body 1.0 x 0.5 mm (LxW typ))
pins: 1, 2

## C1nF/50V-0603
designator C?, comment 1nF/50V
瓷片电容,1nF,5%,X7R,50V,0603; 料号: 10201-10012-00; 品名: 瓷片电容
footprint 0603C
pins: 1, 2

## C1nF/50V-1206
designator C?, comment 1nF/50V
瓷片电容,1nF,5%,X7R,50V,1206; 料号: 10201-10014-00; 品名: 瓷片电容
footprint 1206C
pins: 1, 2

## C1pF/50V-0402
designator C?, comment 1pF/50V
瓷片电容,1PF,5%,X7R,50V,0402; 料号: 10201-00101-00; 品名: 瓷片电容
footprint 0402C (Chip Capacitor; Body 1.0 x 0.5 mm (LxW typ))
pins: 1, 2

## C1uF/50V-0603
designator C?, comment 1uF/50V
瓷片电容,1uF,5%,X7R,50V,0603; 料号: 10201-10042-00; 品名: 瓷片电容
footprint 0603C
pins: 1, 2

## C1uF/50V-0805
designator C?, comment 1uF/50V
瓷片电容,1uF,5%,X7R,50V,0805; 料号: 10201-10043-00; 品名: 瓷片电容
footprint 0805C
pins: 1, 2

## C2.2nF/50V-0603
designator C?, comment 2.2nF/50V
瓷片电容,2.2nF,5%,X7R,50V,0603; 料号: 10201-22012-00; 品名: 瓷片电容
footprint 0603C
pins: 1, 2

## C2.2uF/16V-3216
designator C?, comment 2.2uF/16V
钽电容,2.2uF,10%,16V,3216（A）; 料号: 10203-22043-00; 品名: 钽电容
footprint 3216 (贴片钽电容)
pins: 1, 2

## C2.2uF/50V-0402
designator C?, comment 2.2uF/50V
瓷片电容,2.2uF,5%,X7R,50V,0402; 料号: 10201-22041-00; 品名: 瓷片电容
footprint 0402C (Chip Capacitor; Body 1.0 x 0.5 mm (LxW typ))
pins: 1, 2

## C2.2uF/50V-0603
designator C?, comment 2.2uF/50V
瓷片电容,2.2uF,5%,X7R,50V,0603; 料号: 10201-22042-00; 品名: 瓷片电容
footprint 0603C
pins: 1, 2

## C2.2uF/50V-0805
designator C?, comment 2.2uF/50V
瓷片电容,2.2uF,5%,X7R,50V,0805; 料号: 10201-22043-00; 品名: 瓷片电容
footprint 0805C
pins: 1, 2

## C4.7pF/50V-0402
designator C?, comment 4.7pF/50V
瓷片电容,4.7pF,5%,X7R,50V,0402; 料号: 10201-4P701-00; 品名: 瓷片电容
footprint 0402C (Chip Capacitor; Body 1.0 x 0.5 mm (LxW typ))
pins: 1, 2

## C4.7uF-0603
designator C?, comment 4.7uF/50V
瓷片电容,4.7uF,5%,X7R,50V,0603; 料号: 10201-47042-00; 品名: 瓷片电容
footprint 0603C
pins: 1, 2

## C4.7uF/50V-0805
designator C?, comment 4.7uF/50V
瓷片电容,4.7uF,5%,X7R,50V,0805; 料号: 10204-47043-00; 品名: 瓷片电容
footprint 0805C
pins: 1, 2

## C6.8uF/50V-0805
designator C?, comment 6.8uF/50V
瓷片电容,6.8uF,10%,X7R,50V,0805; 料号: 10201-68047-00; 品名: 瓷片电容
footprint 0805C
pins: 1, 2

## C6pF/50V-0603
designator C?, comment 6pF/50V
瓷片电容,6pF,5%,X7R,50V,0603; 料号: 10201-00602-00; 品名: 瓷片电容
footprint 0603C
pins: 1, 2

## C10nF/50V-0402
designator C?, comment 10nF/50V
瓷片电容,10nF,5%,X7R,50V,0402; 料号: 10201-10021-00; 品名: 瓷片电容
footprint 0402C (Chip Capacitor; Body 1.0 x 0.5 mm (LxW typ))
pins: 1, 2

## C10nF/50V-0603
designator C?, comment 10nF/50V
瓷片电容,10nF,5%,X7R,50V,0603; 料号: 10201-10022-00; 品名: 瓷片电容
footprint 0603C
pins: 1, 2

## C10nF/50V-0805
designator C?, comment 10nF/50V
瓷片电容,10nF,5%,X7R,50V,0805; 料号: 10201-10023-00; 品名: 瓷片电容
footprint 0805C
pins: 1, 2

## C10pF/50V-0603
designator C?, comment 10pF/50V
瓷片电容,10pF,5%,X7R,50V,0603; 料号: 10201-01002-00; 品名: 瓷片电容
footprint 0603C
pins: 1, 2

## C10uF/10V-A
designator C?, comment 10uF/10V
钽电容,10uF,10%,10V,3216(A); 料号: 10203-10053-00; 品名: 钽电容
footprint 3216 (贴片钽电容)
pins: 1, 2

## C10uF/16V-5*11
designator C?, comment 10uF/16V
铝电解电容,10uF,20%,16V,5*11; 料号: 10202-10052-00; 品名: 铝电解电容
footprint RB5*11
pins: 1, 2

## C10uF/16V-3216
designator C?, comment 10uF/16V
钽电容,10uF,5%,16V,3216（A）; 料号: 10203-1005A-00; 品名: 钽电容
footprint 3216 (贴片钽电容)
pins: 1, 2

## C10uF/16V-A
designator C?, comment 10uF/16V
钽电容,10uF,10%,16V,3216(A); 料号: 10203-10057-00; 品名: 钽电容
footprint 3216 (贴片钽电容)
pins: 1, 2

## C10uF/50V-0603
designator C?, comment 10uF/50V
瓷片电容,10uF,5%,X7R,50V,0603; 料号: 10201-10052-00; 品名: 瓷片电容
footprint 0603C
pins: 1, 2

## C10uF/50V-0805
designator C?, comment 10uF/50V
瓷片电容,10uF,5%,X7R,50V,0805; 料号: 10201-10053-00; 品名: 瓷片电容
footprint 0805C
pins: 1, 2

## C10uF/50V-1206
designator C?, comment 10uF/50V
瓷片电容,10uF,5%,X7R,50V,1206; 料号: 10201-10054-00; 品名: 瓷片电容
footprint 1206C
pins: 1, 2

## C10uF/100V-1812
designator C?, comment 10uF/100V
瓷片电容,10uF,5%,X7R,100V,1812; 料号: 10201-10055-00; 品名: 瓷片电容
footprint 1812C
pins: 1, 2

## C12pF-0603
designator C?, comment 12pF
瓷片电容,12pF,5%,0603; 料号: 10201-01202-00; 品名: 瓷片电容
footprint 0603C
pins: 1, 2

## C15nF-0603
designator C?, comment 15nF
瓷片电容,15nF,5%,0603; 料号: 10201-15022-00; 品名: 瓷片电容
footprint 0603C
pins: 1, 2

## C16pF/50V-0603
designator C?, comment 16pF/50V
瓷片电容,16pF,5%,X7R,50V,0603; 料号: 10201-01602-00; 品名: 瓷片电容
footprint 0603C
pins: 1, 2

## C17pF-0603
designator C?, comment 17pF/50V
瓷片电容,17pF,5%,X7R,50V,0603; 料号: 10201-01702-00; 品名: 瓷片电容
footprint 0603C
pins: 1, 2

## C22pF/50V-0402
designator C?, comment 22pF/50V
瓷片电容,22pF,5%,X7R,50V,0402; 料号: 10201-02201-00; 品名: 瓷片电容
footprint 0402C (Chip Capacitor; Body 1.0 x 0.5 mm (LxW typ))
pins: 1, 2

## C22pF/50V-0603
designator C?, comment 22pF/50V
瓷片电容,22pF,5%,X7R,50V,0603; 料号: 10201-02202-00; 品名: 瓷片电容
footprint 0603C
pins: 1, 2

## C22pF/50V-0805
designator C?, comment 22pF/50V
瓷片电容,22pF,5%,X7R,50V,0805; 料号: 10201-02203-00; 品名: 瓷片电容
footprint 0805C
pins: 1, 2

## C22uF/10V-A
designator C?, comment 22uF/10V
钽电容,22uF,10%,10V,3216(A); 料号: 10203-22053-00; 品名: 钽电容
footprint 3216 (贴片钽电容)
pins: 1, 2

## C22uF/10V-B
designator C?, comment 22uF/10V
钽电容,22uF,10%,10V,3528(B); 料号: 10203-22054-00; 品名: 钽电容
footprint B3528
pins: 1, 2

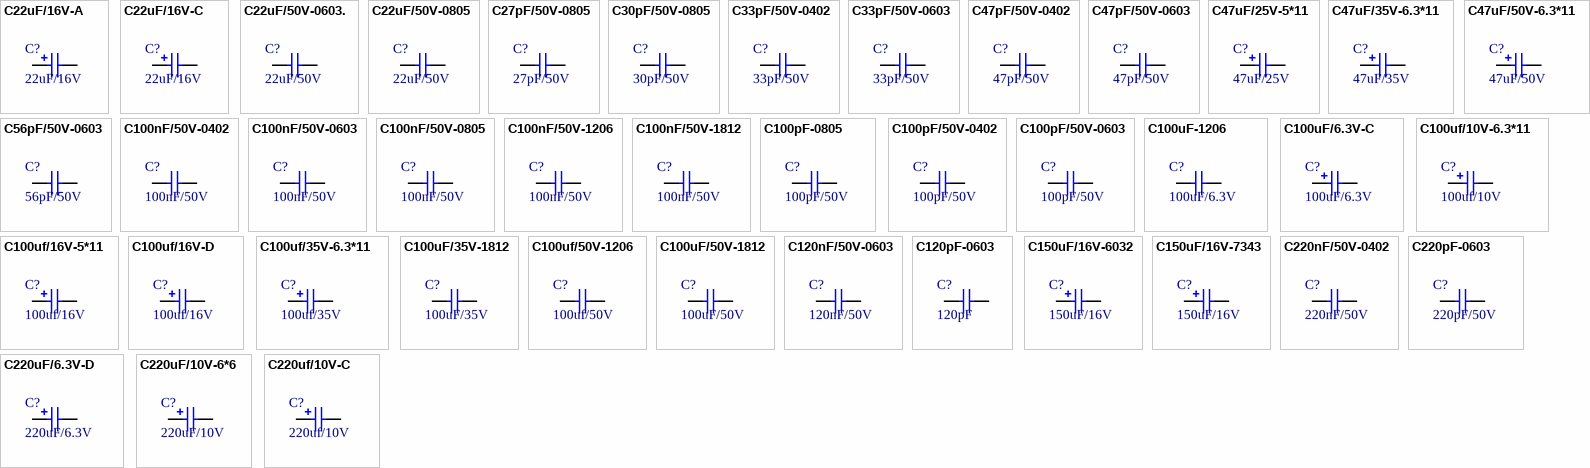
[diagram p4: symbols C22uF/16V-A to C220uf/10V-C]

## C22uF/16V-A
designator C?, comment 22uF/16V
钽电容,22uF,10%,16V,3216(A); 料号: 10203-22057-00
footprint 3216 (贴片钽电容)
pins: 1, 2

## C22uF/16V-C
designator C?, comment 22uF/16V
钽电容,22uF,10%,16V,6032(C); 料号: 10203-22058-00; 品名: 钽电容
footprint 6032 (贴片钽电容)
pins: 1, 2

## C22uF/50V-0603.
designator C?, comment 22uF/50V
瓷片电容,22uF,5%,X7R,50V,0603; 料号: 10201-22052-00; 品名: 瓷片电容
footprint 0603C
pins: 1, 2

## C22uF/50V-0805
designator C?, comment 22uF/50V
瓷片电容,22uF,5%,X7R,50V,0805; 料号: 10201-22053-00; 品名: 瓷片电容
footprint 0805C
pins: 1, 2

## C27pF/50V-0805
designator C?, comment 27pF/50V
瓷片电容,27pF,5%,X7R,50V,0805; 料号: 10201-02703-00; 品名: 瓷片电容
footprint 0805C
pins: 1, 2

## C30pF/50V-0805
designator C?, comment 30pF/50V
瓷片电容,30pF,5%,X7R,50V,0805; 料号: 10201-03003-00; 品名: 瓷片电容
footprint 0805C
pins: 1, 2

## C33pF/50V-0402
designator C?, comment 33pF/50V
瓷片电容,33pF,5%,X7R,50V,0402; 料号: 10201-03301-00; 品名: 瓷片电容
footprint 0402C (Chip Capacitor; Body 1.0 x 0.5 mm (LxW typ))
pins: 1, 2

## C33pF/50V-0603
designator C?, comment 33pF/50V
瓷片电容,33pF,5%,X7R,50V,0603; 料号: 10201-03302-00; 品名: 瓷片电容
footprint 0603C
pins: 1, 2

## C47pF/50V-0402
designator C?, comment 47pF/50V
瓷片电容,47pF,5%,X7R,50V,0402; 料号: 10201-04701-00; 品名: 瓷片电容
footprint 0402C (Chip Capacitor; Body 1.0 x 0.5 mm (LxW typ))
pins: 1, 2

## C47pF/50V-0603
designator C?, comment 47pF/50V
瓷片电容,47pF,5%,X7R,50V,0603; 料号: 10201-04702-00; 品名: 瓷片电容
footprint 0603C
pins: 1, 2

## C47uF/25V-5*11
designator C?, comment 47uF/25V
铝电解电容,47uF,20%,25V,5*11; 料号: 10202-47056-00; 品名: 铝电解电容
footprint RB5*11
pins: 1, 2

## C47uF/35V-6.3*11
designator C?, comment 47uF/35V
铝电解电容,47uF,20%,35V,6.3*11; 料号: 10202-47058-00; 品名: 铝电解电容
footprint RB6.3*11
pins: 1, 2

## C47uF/50V-6.3*11
designator C?, comment 47uF/50V
铝电解电容,47uF,20%,50V,6.3*11; 料号: 10202-4705B-00; 品名: 铝电解电容
footprint RB6.3*11
pins: 1, 2

## C56pF/50V-0603
designator C?, comment 56pF/50V
瓷片电容,56pF,5%,X7R,50V,0603; 料号: 10201-05602-00; 品名: 瓷片电容
footprint 0603C
pins: 1, 2

## C100nF/50V-0402
designator C?, comment 100nF/50V
瓷片电容,100nF,5%,X7R,50V,0402; 料号: 10201-10031-00; 品名: 瓷片电容
footprint 0402C (Chip Capacitor; Body 1.0 x 0.5 mm (LxW typ))
pins: 1, 2

## C100nF/50V-0603
designator C?, comment 100nF/50V
瓷片电容,100nF,5%,X7R,50V,0603; 料号: 10201-10032-00; 品名: 瓷片电容
footprint 0603C
pins: 1, 2

## C100nF/50V-0805
designator C?, comment 100nF/50V
瓷片电容,100nF,5%,X7R,50V,0805; 料号: 10201-10033-00; 品名: 瓷片电容
footprint 0805C
pins: 1, 2

## C100nF/50V-1206
designator C?, comment 100nF/50V
瓷片电容,100nF,5%,X7R,50V,1206; 料号: 10201-10034-00; 品名: 瓷片电容
footprint 1206C
pins: 1, 2

## C100nF/50V-1812
designator C?, comment 100nF/50V
瓷片电容,100nF,5%,X7R,50V,1812; 料号: 10201-10035-00; 品名: 瓷片电容
footprint 1812C (Footprint not found)
pins: 1, 2

## C100pF-0805
designator C?, comment 100pF/50V
瓷片电容,100pF,5%,X7R,50V,0805; 料号: 10201-10003-00; 品名: 瓷片电容
footprint 0805C
pins: 1, 2

## C100pF/50V-0402
designator C?, comment 100pF/50V
瓷片电容,100pF,5%,X7R,50V,0402; 料号: 10201-10001-00; 品名: 瓷片电容
footprint 0402C (Chip Capacitor; Body 1.0 x 0.5 mm (LxW typ))
pins: 1, 2

## C100pF/50V-0603
designator C?, comment 100pF/50V
瓷片电容,100pF,5%,X7R,50V,0603; 料号: 10201-10002-00; 品名: 瓷片电容
footprint 0603C
pins: 1, 2

## C100uF-1206
designator C?, comment 100uF/6.3V
瓷片电容,100uF/6.3V,1206; 料号: 10201-10064-00; 品名: 瓷片电容
footprint 1206C
pins: 1, 2

## C100uF/6.3V-C
designator C?, comment 100uF/6.3V
钽电容,100uF,10%,6.3V,6032(C); 料号: 10203-10061-00; 品名: 钽电容
footprint 6032 (贴片钽电容)
pins: 1, 2

## C100uf/10V-6.3*11
designator C?, comment 100uf/10V
铝电解电容,100uF,20%,10V,6.3*11; 料号: 10202-10061-00; 品名: 铝电解电容
footprint RB6.3*11
pins: 1, 2

## C100uf/16V-5*11
designator C?, comment 100uf/16V
铝电解电容,100uF,20%,16V,5*11; 料号: 10202-10062-00; 品名: 铝电解电容
footprint RB5*11
pins: 1, 2

## C100uf/16V-D
designator C?, comment 100uf/16V
钽电容,100uF,10%,16V,7343(D); 料号: 10203-10069-00; 品名: 钽电容
footprint 7343
pins: 1, 2

## C100uf/35V-6.3*11
designator C?, comment 100uf/35V
铝电解电容,100uF,20%,35V,6.3*11; 料号: 10202-10068-00; 品名: 铝电解电容
footprint RB6.3*11
pins: 1, 2

## C100uF/35V-1812
designator C?, comment 100uF/35V
瓷片电容,100uF,35V,1812; 料号: 10201-10065-00; 品名: 瓷片电容
footprint 1812C
pins: 1, 2

## C100uf/50V-1206
designator C?, comment 100uf/50V
瓷片电容,100uF,5%,X7R,50V,1206; 料号: 10201-10064-00; 品名: 瓷片电容
footprint 1206C
pins: 1, 2

## C100uF/50V-1812
designator C?, comment 100uF/50V
瓷片电容,100uF,5%,X7R,50V,1812; 料号: 10201-1006A-00; 品名: 瓷片电容
footprint 1812C
pins: 1, 2

## C120nF/50V-0603
designator C?, comment 120nF/50V
瓷片电容,120nF,10%,X7R,50V,0603; 料号: 10201-12036-00; 品名: 瓷片电容
footprint 0603C
pins: 1, 2

## C120pF-0603
designator C?, comment 120pF
瓷片电容,120pF,5%,0603; 料号: 10201-12002-00; 品名: 瓷片电容
footprint 0603C
pins: 1, 2

## C150uF/16V-6032
designator C?, comment 150uF/16V
钽电容,150uF,10%,16V,6032; 料号: 10203-15068-00; 品名: 钽电容
footprint 6032 (贴片钽电容)
pins: 1, 2

## C150uF/16V-7343
designator C?, comment 150uF/16V
钽电容,150uF,10%,16V,7343（D）; 料号: 10203-15062-00; 品名: 钽电容
footprint 7343
pins: 1, 2

## C220nF/50V-0402
designator C?, comment 220nF/50V
瓷片电容,220nF,5%,X7R,50V,0402; 料号: 10201-22031-00; 品名: 瓷片电容
footprint 0402C (Chip Capacitor; Body 1.0 x 0.5 mm (LxW typ))
pins: 1, 2

## C220pF-0603
designator C?, comment 220pF/50V
瓷片电容,220pF,5%,X7R,50V,0603; 料号: 10201-22002-00; 品名: 瓷片电容
footprint 0603C
pins: 1, 2

## C220uF/6.3V-D
designator C?, comment 220uF/6.3V
钽电容,220uF,10%,6.3V,7343(D); 料号: 10203-22062-00; 品名: 钽电容
footprint 7343
pins: 1, 2

## C220uF/10V-6*6
designator C?, comment 220uF/10V
铝电解电容,220uF,20%,10V,6*6; 料号: 10202-2206D-00; 品名: 铝电解电容
footprint RB6*6
pins: 1, 2

## C220uf/10V-C
designator C?, comment 220uf/10V
钽电容,220uF,10%,10V,6032(C); 料号: 10203-22065-00; 品名: 钽电容
footprint 6032 (贴片钽电容)
pins: 1, 2

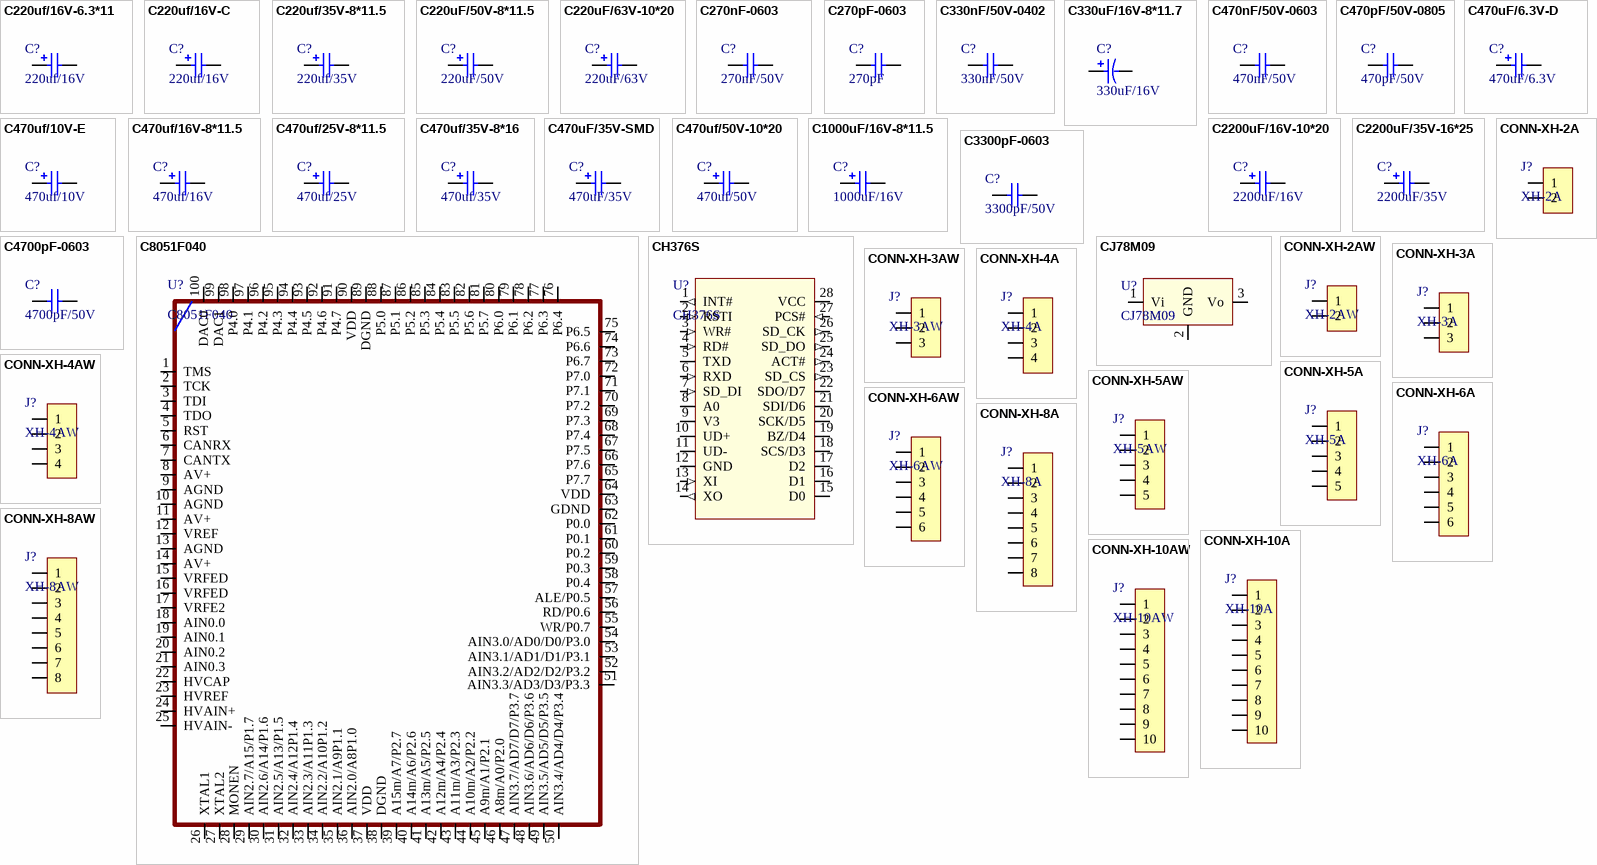
[diagram p5: symbols C220uf/16V-6.3*11 to CONN-XH-10AW]

## C220uf/16V-6.3*11
designator C?, comment 220uf/16V
铝电解电容,220uF,20%,16V,6.3*11; 料号: 10202-22063-00; 品名: 铝电解电容
footprint RB6.3*11
pins: 1, 2

## C220uf/16V-C
designator C?, comment 220uf/16V
钽电容,220uF,10%,16V,6032(C); 料号: 10203-22068-00; 品名: 钽电容
footprint 6032 (贴片钽电容)
pins: 1, 2

## C220uf/35V-8*11.5
designator C?, comment 220uf/35V
铝电解电容,220uF,20%,35V,8*11.5; 料号: 10202-22069-00; 品名: 铝电解电容
footprint RB8*11.5
pins: 1, 2

## C220uF/50V-8*11.5
designator C?, comment 220uF/50V
铝电解电容,220uF,20%,50V,8*11.5; 料号: 10202-22064-00; 品名: 铝电解电容
footprint RB8*11.5
pins: 1, 2

## C220uF/63V-10*20
designator C?, comment 220uF/63V
铝电解电容,220uF,20%,63V,10*20; 料号: 10202-22065-00; 品名: 铝电解电容
footprint RB10*20
pins: 1, 2

## C270nF-0603
designator C?, comment 270nF/50V
瓷片电容,270nF,5%,0603; 料号: 10201-27032-00; 品名: 瓷片电容
footprint 0603C
pins: 1, 2

## C270pF-0603
designator C?, comment 270pF
瓷片电容,270pF,5%,0603; 料号: 10201-27002-00; 品名: 瓷片电容
footprint 0603C
pins: 1, 2

## C330nF/50V-0402
designator C?, comment 330nF/50V
瓷片电容,330nF,5%,X7R,50V,0402; 料号: 10201-33031-00; 品名: 瓷片电容
footprint 0402C (Chip Capacitor; Body 1.0 x 0.5 mm (LxW typ))
pins: 1, 2

## C330uF/16V-8*11.7
designator C?, comment 330uF/16V
铝电解电容，330uF/16V，8*11.7; 品名: 铝电解电容; 料号: 10202-3307G-00
footprint CES-8 X11R7MM (Footprint not found)
pins: 1, 2

## C470nF/50V-0603
designator C?, comment 470nF/50V
瓷片电容,470nF,5%,X7R,50V,0603; 料号: 10201-47032-00; 品名: 瓷片电容
footprint 0603C
pins: 1, 2

## C470pF/50V-0805
designator C?, comment 470pF/50V
瓷片电容,470pF,5%,X7R,50V,0805; 料号: 10201-47003-00; 品名: 瓷片电容
footprint 0805C
pins: 1, 2

## C470uF/6.3V-D
designator C?, comment 470uF/6.3V
钽电容,470uF,10%,6.3V,7343(D); 料号: 10203-47062-00; 品名: 钽电容
footprint 7343
pins: 1, 2

## C470uf/10V-E
designator C?, comment 470uf/10V
钽电容,470uF,10%,10V,7343(E); 料号: 10203-47066-00; 品名: 钽电容
footprint 7343
pins: 1, 2

## C470uf/16V-8*11.5
designator C?, comment 470uf/16V
铝电解电容,470uF,20%,16V,8*11.5; 料号: 10202-47064-00; 品名: 铝电解电容
footprint RB8*11.5
pins: 1, 2

## C470uf/25V-8*11.5
designator C?, comment 470uf/25V
铝电解电容,470uF,20%,25V,8*11.5; 料号: 10202-47067-00; 品名: 铝电解电容
footprint RB8*11.5
pins: 1, 2

## C470uf/35V-8*16
designator C?, comment 470uf/35V
铝电解电容,470uF,20%,35V,8*16; 料号: 10202-47069-00; 品名: 铝电解电容
footprint RB8*16
pins: 1, 2

## C470uF/35V-SMD
designator C?, comment 470uF/35V
铝电解电容,470uF,20%,35V,10*10.2（贴片）; 料号: 10202-47060-00; 品名: 铝电解电容
pins: 1, 2

## C470uf/50V-10*20
designator C?, comment 470uf/50V
铝电解电容,470uF,20%,50V,10*20; 料号: 10202-4706C-00; 品名: 铝电解电容
footprint RB10*20
pins: 1, 2

## C1000uF/16V-8*11.5
designator C?, comment 1000uF/16V
铝电解电容,1000uF,20%,16V,8*11.5; 料号: 10202-10074-00; 品名: 铝电解电容
footprint RB8*11.5
pins: 1, 2

## C2200uF/16V-10*20
designator C?, comment 2200uF/16V
铝电解电容,2200uF,20%,16V,10*20; 料号: 10202-22075-00; 品名: 铝电解电容
footprint RB10*20
pins: 1, 2

## C2200uF/35V-16*25
designator C?, comment 2200uF/35V
铝电解电容,2200uF,20%,35V,16*25; 料号: 10202-2207A-00; 品名: 铝电解电容
footprint RB16*25
pins: 1, 2

## C3300pF-0603
designator C?, comment 3300pF/50V
瓷片电容,3300pF,5%,X7R,50V,0603; 料号: 10201-33012-00; 品名: 瓷片电容
footprint 0603C
pins: 1, 2

## C4700pF-0603
designator C?, comment 4700pF/50V
瓷片电容,4700pF,5%,X7R,50V,0603; 料号: 10201-47012-00; 品名: 瓷片电容
footprint 0603C
pins: 1, 2

## C8051F040
designator U?
MCU，C8051F040，TQFP100; 料号: 10601-00008-8K; 品名: MCU
footprint TQFP100
pins: 1 TMS, 2 TCK, 3 TDI, 4 TDO, 5 RST, 6 CANRX, 7 CANTX, 8 AV+, 9 AGND, 10 AGND, 11 AV+, 12 VREF, 13 AGND, 14 AV+, 15 VRFED, 16 VRFED, 17 VRFE2, 18 AIN0.0, 19 AIN0.1, 20 AIN0.2, 21 AIN0.3, 22 HVCAP, 23 HVREF, 24 HVAIN+, 25 HVAIN-, 26 XTAL1, 27 XTAL2, 28 MONEN, 29 AIN2.7/A15/P1.7, 30 AIN2.6/A14/P1.6, 31 AIN2.5/A13/P1.5, 32 AIN2.4/A12P1.4, 33 AIN2.3/A11P1.3, 34 AIN2.2/A10P1.2, 35 AIN2.1/A9P1.1, 36 AIN2.0/A8P1.0, 37 VDD, 38 DGND, 39 A15m/A7/P2.7, 40 A14m/A6/P2.6, 41 A13m/A5/P2.5, 42 A12m/A4/P2.4, 43 A11m/A3/P2.3, 44 A10m/A2/P2.2, 45 A9m/A1/P2.1, 46 A8m/A0/P2.0, 47 AIN3.7/AD7/D7/P3.7, 48 AIN3.6/AD6/D6/P3.6, 49 AIN3.5/AD5/D5/P3.5, 50 AIN3.4/AD4/D4/P3.4, 51 AIN3.3/AD3/D3/P3.3, 52 AIN3.2/AD2/D2/P3.2, 53 AIN3.1/AD1/D1/P3.1, 54 AIN3.0/AD0/D0/P3.0, 55 WR/P0.7, 56 RD/P0.6, 57 ALE/P0.5, 58 P0.4, 59 P0.3, 60 P0.2, 61 P0.1, 62 P0.0, 63 GDND, 64 VDD, 65 P7.7, 66 P7.6, 67 P7.5, 68 P7.4, 69 P7.3, 70 P7.2, 71 P7.1, 72 P7.0, 73 P6.7, 74 P6.6, 75 P6.5, 76 P6.4, 77 P6.3, 78 P6.2, 79 P6.1, 80 P6.0, 81 P5.7, 82 P5.6, 83 P5.5, 84 P5.4, 85 P5.3, 86 P5.2, 87 P5.1, 88 P5.0, 89 DGND, 90 VDD, 91 P4.7, 92 P4.6, 93 P4.5, 94 P4.4, 95 P4.3, 96 P4.2, 97 P4.1, 98 P4.0, 99 DAC1, 100 DAC0

## CH376S
designator U?
IC，CH376S，SOP28; 料号: 10606-00006-2K; 品名: 接近芯片
footprint SOP28 (引脚中心距50mil)
pins: 1 INT# (out), 2 RSTI (in), 3 WR# (in), 4 RD# (in), 5 TXD (io), 6 RXD (in), 7 SD_DI (in), 8 A0 (io), 9 V3 (power), 10 UD+ (io), 11 UD- (io), 12 GND (power), 13 XI (in), 14 XO (out), 15 D0 (io), 16 D1 (io), 17 D2 (io), 18 SCS/D3 (io), 19 BZ/D4 (io), 20 SCK/D5 (io), 21 SDI/D6 (io), 22 SDO/D7 (io), 23 SD_CS (out), 24 ACT# (out), 25 SD_DO (out), 26 SD_CK (out), 27 PCS# (in), 28 VCC (power)

## CJ78M09
designator U?
IC，CJ78M09，TO-252; 料号: 10604-00025-00; 品名: 电源芯片
footprint TO-252
pins: 1 Vi, 2 GND, 3 Vo

## CONN-XH-2A
designator J?, comment XH-2A
CONN,XH-2A,2PIN,2.54mm插座; 料号: 10701-00001-00; 品名: 线对板连接器
footprint CN2-2.54
pins: 1, 2

## CONN-XH-2AW
designator J?, comment XH-2AW
CONN,XH-2AW,2PIN,2.54mm弯脚插座; 料号: 10701-00002-00; 品名: 线对板连接器
footprint CN2-2.54H
pins: 1, 2

## CONN-XH-3A
designator J?, comment XH-3A
CONN,XH-3A,3PIN,2.54mm插座; 料号: 10701-00004-00; 品名: 线对板连接器
footprint CN3-2.54
pins: 1, 2, 3

## CONN-XH-3AW
designator J?, comment XH-3AW
CONN,XH-3AW,3PIN,2.54mm弯脚插座; 料号: 10701-00005-00; 品名: 线对板连接器
footprint CN3-2.54H
pins: 1, 2, 3

## CONN-XH-4A
designator J?, comment XH-4A
CONN,XH-4A,4PIN,2.54mm插座; 料号: 10701-00007-00; 品名: 线对板连接器
footprint CN4-2.54
pins: 1, 2, 3, 4

## CONN-XH-4AW
designator J?, comment XH-4AW
CONN,XH-4AW,4PIN,2.54mm弯脚插座; 料号: 10701-00008-00; 品名: 线对板连接器
footprint CN4-2.54H
pins: 1, 2, 3, 4

## CONN-XH-5A
designator J?, comment XH-5A
CONN,XH-5A,5PIN,2.54mm插座; 料号: 10701-00010-00; 品名: 线对板连接器
footprint CN5-2.54
pins: 1, 2, 3, 4, 5

## CONN-XH-5AW
designator J?, comment XH-5AW
CONN,XH-5AW,5PIN,2.54mm弯脚插座; 料号: 10701-00011-00; 品名: 线对板连接器
footprint CN5-2.54H
pins: 1, 2, 3, 4, 5

## CONN-XH-6A
designator J?, comment XH-6A
CONN,XH-6A,6PIN,2.54mm插座; 料号: 10701-00013-00; 品名: 线对板连接器
footprint CN6-2.54
pins: 1, 2, 3, 4, 5, 6

## CONN-XH-6AW
designator J?, comment XH-6AW
CONN,XH-6AW,6PIN,2.54mm弯脚插座; 料号: 10701-00014-00; 品名: 线对板连接器
footprint CN6-2.54H
pins: 1, 2, 3, 4, 5, 6

## CONN-XH-8A
designator J?, comment XH-8A
CONN,XH-8A,8PIN,2.54mm插座; 料号: 10701-00016-00; 品名: 线对板连接器
footprint CN8-2.54
pins: 1, 2, 3, 4, 5, 6, 7, 8

## CONN-XH-8AW
designator J?, comment XH-8AW
CONN,XH-8AW,8PIN,2.54mm弯脚插座; 料号: 10701-00017-00; 品名: 线对板连接器
footprint CN8-2.54H
pins: 1, 2, 3, 4, 5, 6, 7, 8

## CONN-XH-10A
designator J?, comment XH-10A
CONN,XH-10A,10PIN,2.54mm插座; 料号: *10701-00019-00; 品名: 线对板连接器
footprint CN10-2.54
pins: 1, 2, 3, 4, 5, 6, 7, 8, 9, 10

## CONN-XH-10AW
designator J?, comment XH-10AW
CONN,XH-10AW,10PIN,2.54mm弯脚插座; 料号: 10701-00020-00; 品名: 线对板连接器
footprint CN10-2.54H
pins: 1, 2, 3, 4, 5, 6, 7, 8, 9, 10

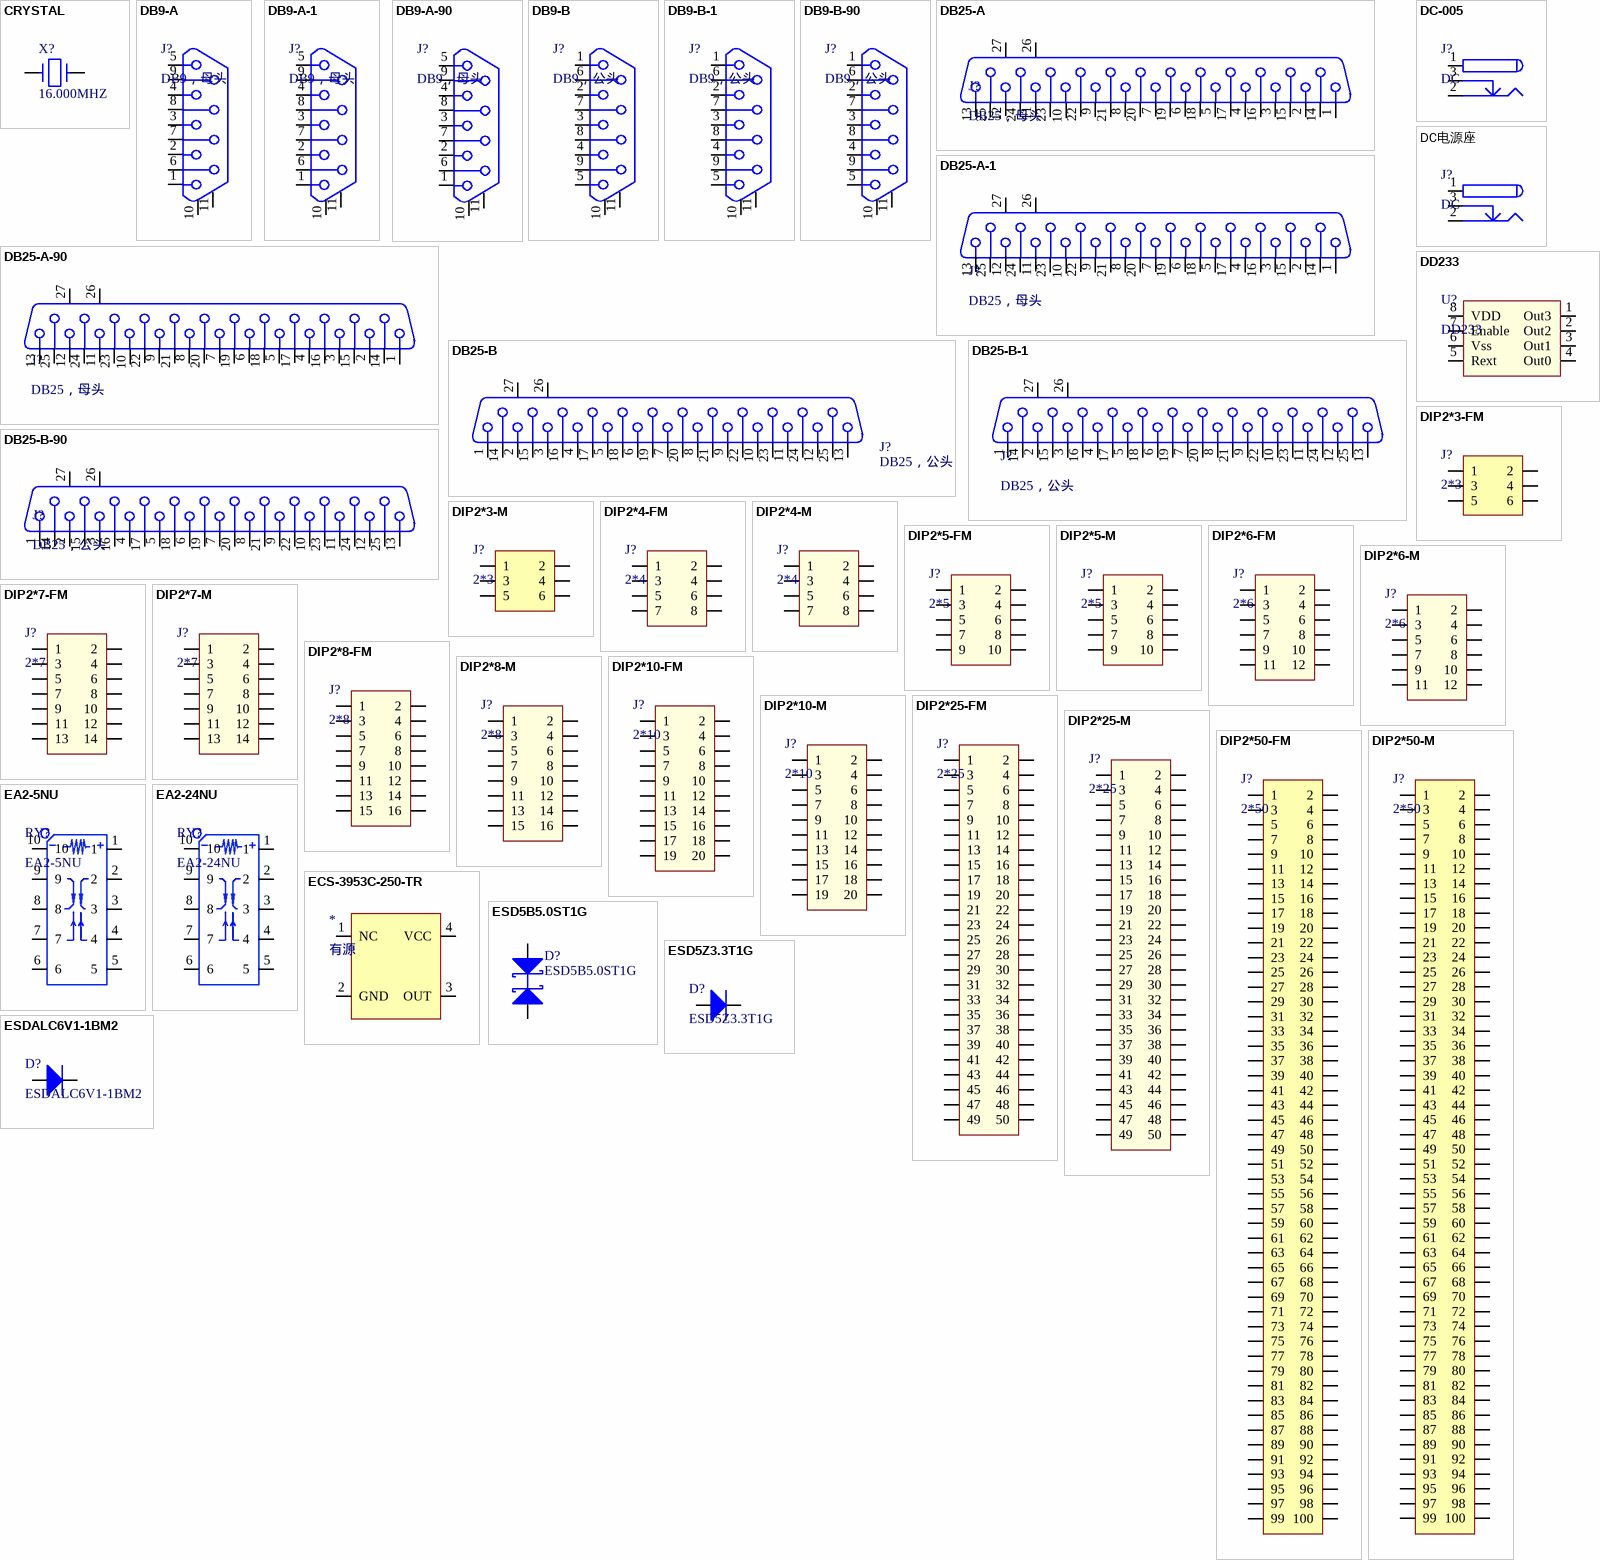
[diagram p6: symbols CRYSTAL to ESDALC6V1-1BM2]

## CRYSTAL
designator X?, comment 16.000MHZ
无源晶振，16.000MHZ，贴片2脚，5.0*3.2*1.2; 品名: 无源晶振
footprint CRYL3*5
pins: 1, 2

## DB9-A
designator J?, comment DB9，母头
CONN,DB9,母头,直焊板式; 料号: 10701-00025-00; 品名: 线对板连接器
footprint DB9FSW母头 (母头)
pins: 1, 2, 3, 4, 5, 6, 7, 8, 9, 10, 11

## DB9-A-1
designator J?, comment DB9，母头
CONN,DB9,母头,焊线式; 料号: 10701-00027-00; 品名: 线对板连接器
footprint DB9BSM
pins: 1, 2, 3, 4, 5, 6, 7, 8, 9, 10, 11

## DB9-A-90
designator J?, comment DB9，母头
CONN,DB9,母头,90度焊板式; 料号: 10701-00026-00; 品名: 线对板连接器
footprint DB9FSW母头-90
pins: 1, 2, 3, 4, 5, 6, 7, 8, 9, 10, 11

## DB9-B
designator J?, comment DB9，公头
CONN,DB9,公头,直焊板式; 料号: 10701-00022-00; 品名: 线对板连接器
footprint DB9FSW公头 (母头)
pins: 1, 2, 3, 4, 5, 6, 7, 8, 9, 10, 11

## DB9-B-1
designator J?, comment DB9，公头
CONN,DB9,公头,焊线式; 料号: 10701-00024-00; 品名: 线对板连接器
footprint DB9BSM
pins: 1, 2, 3, 4, 5, 6, 7, 8, 9, 10, 11

## DB9-B-90
designator J?, comment DB9，公头
CONN,DB9,公头,90度焊板式; 料号: 10701-00023-00; 品名: 线对板连接器
footprint DB9FSW公头-90
pins: 1, 2, 3, 4, 5, 6, 7, 8, 9, 10, 11

## DB25-A
designator J?, comment DB25，母头
CONN,DB25,母头,直焊板式; 料号: 10701-00031-00; 品名: 线对板连接器
footprint DB25FSW母头
pins: 1, 2, 3, 4, 5, 6, 7, 8, 9, 10, 11, 12, 13, 14, 15, 16, 17, 18, 19, 20, 21, 22, 23, 24, 25, 26 MH1, 27 MH2

## DB25-A-1
designator J?, comment DB25，母头
CONN,DB25,母头,焊线式; 料号: 10701-00033-00; 品名: 线对板连接器
footprint DB25BSW
pins: 1, 2, 3, 4, 5, 6, 7, 8, 9, 10, 11, 12, 13, 14, 15, 16, 17, 18, 19, 20, 21, 22, 23, 24, 25, 26 MH1, 27 MH2

## DB25-A-90
designator J?, comment DB25，母头
CONN,DB25,母头,90度焊板式; 料号: 10701-00032-00; 料号: 线对板连接器
footprint DB25FSW母头-90
pins: 1, 2, 3, 4, 5, 6, 7, 8, 9, 10, 11, 12, 13, 14, 15, 16, 17, 18, 19, 20, 21, 22, 23, 24, 25, 26 MH1, 27 MH2

## DB25-B
designator J?, comment DB25，公头
CONN,DB25,公头,直焊板式; 料号: 10701-00028-00; 品名: 线对板连接器
footprint DB25FSW公头
pins: 1, 2, 3, 4, 5, 6, 7, 8, 9, 10, 11, 12, 13, 14, 15, 16, 17, 18, 19, 20, 21, 22, 23, 24, 25, 26 MH1, 27 MH2

## DB25-B-1
designator J?, comment DB25，公头
CONN,DB25,公头,焊线式; 料号: 10701-00030-00; 品名: 线对板连接器
footprint DB25BSW
pins: 1, 2, 3, 4, 5, 6, 7, 8, 9, 10, 11, 12, 13, 14, 15, 16, 17, 18, 19, 20, 21, 22, 23, 24, 25, 26 MH1, 27 MH2

## DB25-B-90
designator J?, comment DB25，公头
CONN,DB25,公头,90度焊板式; 料号: 10701-00029-00; 品名: 线对板连接器
footprint DB25FSW公头-90
pins: 1, 2, 3, 4, 5, 6, 7, 8, 9, 10, 11, 12, 13, 14, 15, 16, 17, 18, 19, 20, 21, 22, 23, 24, 25, 26 MH1, 27 MH2

## DC-005
designator J?, comment DC
电源插座,DC－005; 料号: 10701-00039-00; 品名: 线对板连接器
footprint DC-005
pins: 1 (power), 2 (power), 3 (power)

## DC电源座
designator J?, comment DC
DC电源座，3脚平头芯：1.2mm，3.5*1.3mm; 料号: 10701-00067-00; 品名: 线对板连接器
footprint DC-002
pins: 1 (power), 2 (power), 3 (power)

## DD233
designator U?
IC,DD233，恒流调节器; 料号: 10611-00015-00; 品名: ASIC
footprint SOP8 (body:6mm)
pins: 1 Out3, 2 Out2, 3 Out1, 4 Out0, 5 Rext, 6 Vss, 7 Enable, 8 VDD

## DIP2*3-FM
designator J?, comment 2*3
双排母，2*3PIN，间距2.54mm; 料号: 10701-00077-00; 品名: 线对板连接器
footprint DIP2*3
pins: 1, 2, 3, 4, 5, 6

## DIP2*3-M
designator J?, comment 2*3
双排针，2*3,2.54mm; 料号: 10701-00082-00; 品名: 线对板连接器
footprint DIP2*3
pins: 1, 2, 3, 4, 5, 6

## DIP2*4-FM
designator J?, comment 2*4
双排母,2*4,2.54mm; 料号: 10701-00040-00; 品名: 线对板连接器
footprint DIP2*4
pins: 1, 2, 3, 4, 5, 6, 7, 8

## DIP2*4-M
designator J?, comment 2*4
双排针,2*4,2.54mm; 料号: 10701-00041-00; 品名: 线对板连接器
footprint DIP2*4
pins: 1, 2, 3, 4, 5, 6, 7, 8

## DIP2*5-FM
designator J?, comment 2*5
双排母,2*5,2.54mm; 料号: 10701-00046-00; 品名: 线对板连接器
footprint DIP2*5
pins: 1, 2, 3, 4, 5, 6, 7, 8, 9, 10

## DIP2*5-M
designator J?, comment 2*5
双排针,2*5,2.54mm; 料号: 10701-00047-00; 品名: 线对板连接器
footprint DIP2*5
pins: 1, 2, 3, 4, 5, 6, 7, 8, 9, 10

## DIP2*6-FM
designator J?, comment 2*6
双排母,2*6,2.54mm; 料号: 10701-00050-00; 品名: 线对板连接器
footprint DIP2*6
pins: 1, 2, 3, 4, 5, 6, 7, 8, 9, 10, 11, 12

## DIP2*6-M
designator J?, comment 2*6
双排针,2*6,2.54mm; 料号: 10701-00051-00; 品名: 线对板连接器
footprint DIP2*6
pins: 1, 2, 3, 4, 5, 6, 7, 8, 9, 10, 11, 12

## DIP2*7-FM
designator J?, comment 2*7
双排母,2*7,2.54mm; 料号: 10701-00054-00; 品名: 线对板连接器
footprint DIP2*7
pins: 1, 2, 3, 4, 5, 6, 7, 8, 9, 10, 11, 12, 13, 14

## DIP2*7-M
designator J?, comment 2*7
双排针,2*7,2.54mm; 料号: 10701-00055-00; 品名: 线对板连接器
footprint DIP2*7
pins: 1, 2, 3, 4, 5, 6, 7, 8, 9, 10, 11, 12, 13, 14

## DIP2*8-FM
designator J?, comment 2*8
双排母,2*8,2.54mm; 料号: 10701-00056-00; 品名: 线对板连接器
footprint DIP2*8
pins: 1, 2, 3, 4, 5, 6, 7, 8, 9, 10, 11, 12, 13, 14, 15, 16

## DIP2*8-M
designator J?, comment 2*8
双排针,2*8,2.54mm; 料号: 10701-00057-00; 品名: 线对板连接器
footprint DIP2*8
pins: 1, 2, 3, 4, 5, 6, 7, 8, 9, 10, 11, 12, 13, 14, 15, 16

## DIP2*10-FM
designator J?, comment 2*10
双排母,2*10,2.54mm; 料号: 10701-00058-00; 品名: 线对板连接器
footprint DIP2*10
pins: 1, 2, 3, 4, 5, 6, 7, 8, 9, 10, 11, 12, 13, 14, 15, 16, 17, 18, 19, 20

## DIP2*10-M
designator J?, comment 2*10
双排针,2*10,2.54mm; 料号: 10701-00059-00; 品名: 线对板连接器
footprint DIP2*10
pins: 1, 2, 3, 4, 5, 6, 7, 8, 9, 10, 11, 12, 13, 14, 15, 16, 17, 18, 19, 20

## DIP2*25-FM
designator J?, comment 2*25
双排母,2*25,2.54mm; 料号: 10701-00096-00; 品名: 线对板连接器
pins: 1, 2, 3, 4, 5, 6, 7, 8, 9, 10, 11, 12, 13, 14, 15, 16, 17, 18, 19, 20, 21, 22, 23, 24, 25, 26, 27, 28, 29, 30, 31, 32, 33, 34, 35, 36, 37, 38, 39, 40, 41, 42, 43, 44, 45, 46, 47, 48, 49, 50

## DIP2*25-M
designator J?, comment 2*25
双排针,2*25,2.54mm,（高30mm）; 料号: 10701-00098-00; 品名: 线对板连接器
pins: 1, 2, 3, 4, 5, 6, 7, 8, 9, 10, 11, 12, 13, 14, 15, 16, 17, 18, 19, 20, 21, 22, 23, 24, 25, 26, 27, 28, 29, 30, 31, 32, 33, 34, 35, 36, 37, 38, 39, 40, 41, 42, 43, 44, 45, 46, 47, 48, 49, 50

## DIP2*50-FM
designator J?, comment 2*50
双排母,2*50,2.54mm; 料号: 10701-00062-00; 品名: 线对板连接器
footprint DIP2*50 (Footprint not found)
pins: 1, 2, 3, 4, 5, 6, 7, 8, 9, 10, 11, 12, 13, 14, 15, 16, 17, 18, 19, 20, 21, 22, 23, 24, 25, 26, 27, 28, 29, 30, 31, 32, 33, 34, 35, 36, 37, 38, 39, 40, 41, 42, 43, 44, 45, 46, 47, 48, 49, 50, 51, 52, 53, 54, 55, 56, 57, 58, 59, 60, 61, 62, 63, 64, 65, 66, 67, 68, 69, 70, 71, 72, 73, 74, 75, 76, 77, 78, 79, 80, 81, 82, 83, 84, 85, 86, 87, 88, 89, 90, 91, 92, 93, 94, 95, 96, 97, 98, 99, 100

## DIP2*50-M
designator J?, comment 2*50
双排针,2*50,2.54mm; 料号: 10701-00063-00; 品名: 线对板连接器
footprint DIP2*50
pins: 1, 2, 3, 4, 5, 6, 7, 8, 9, 10, 11, 12, 13, 14, 15, 16, 17, 18, 19, 20, 21, 22, 23, 24, 25, 26, 27, 28, 29, 30, 31, 32, 33, 34, 35, 36, 37, 38, 39, 40, 41, 42, 43, 44, 45, 46, 47, 48, 49, 50, 51, 52, 53, 54, 55, 56, 57, 58, 59, 60, 61, 62, 63, 64, 65, 66, 67, 68, 69, 70, 71, 72, 73, 74, 75, 76, 77, 78, 79, 80, 81, 82, 83, 84, 85, 86, 87, 88, 89, 90, 91, 92, 93, 94, 95, 96, 97, 98, 99, 100

## EA2-5NU
designator RY?
继电器，直插，EA2-5NU，5VDC，10PIN; 料号: 10901-00004-8J; 品名: 信号继电器
footprint EA2
pins: 1, 2, 3, 4, 5, 6, 7, 8, 9, 10

## EA2-24NU
designator RY?
继电器，直插，EA2-24NU，24VDC，10PIN; 料号: 10901-00003-8J; 品名: 信号继电器
footprint EA2
pins: 1, 2, 3, 4, 5, 6, 7, 8, 9, 10

## ECS-3953C-250-TR
designator *, comment 有源
有源晶振，ECS-3953C-250-TR,7.5*5.0; 料号: 11402-00001-00; 品名: 有源晶振
footprint ECS-3953C
pins: 1 NC, 2 GND, 3 OUT, 4 VCC

## ESD5B5.0ST1G
designator D?
TVS管,5V,SOD-523; 料号: 10405-00037-00; 品名: TVS管
footprint SOD-523
pins: 1, 2

## ESD5Z3.3T1G
designator D?
TVS管，ESD5Z3.3T1G，SOD-523; 料号: 10405-00003-1H; 品名: TVS管
footprint SOD-523
pins: A, K

## ESDALC6V1-1BM2
designator D?
TVS管，ESDALC6V1-1BM2,SOD882; 料号: 10405-00008-00; 品名: TVS管
footprint SOD882
pins: 1 A, 2 K

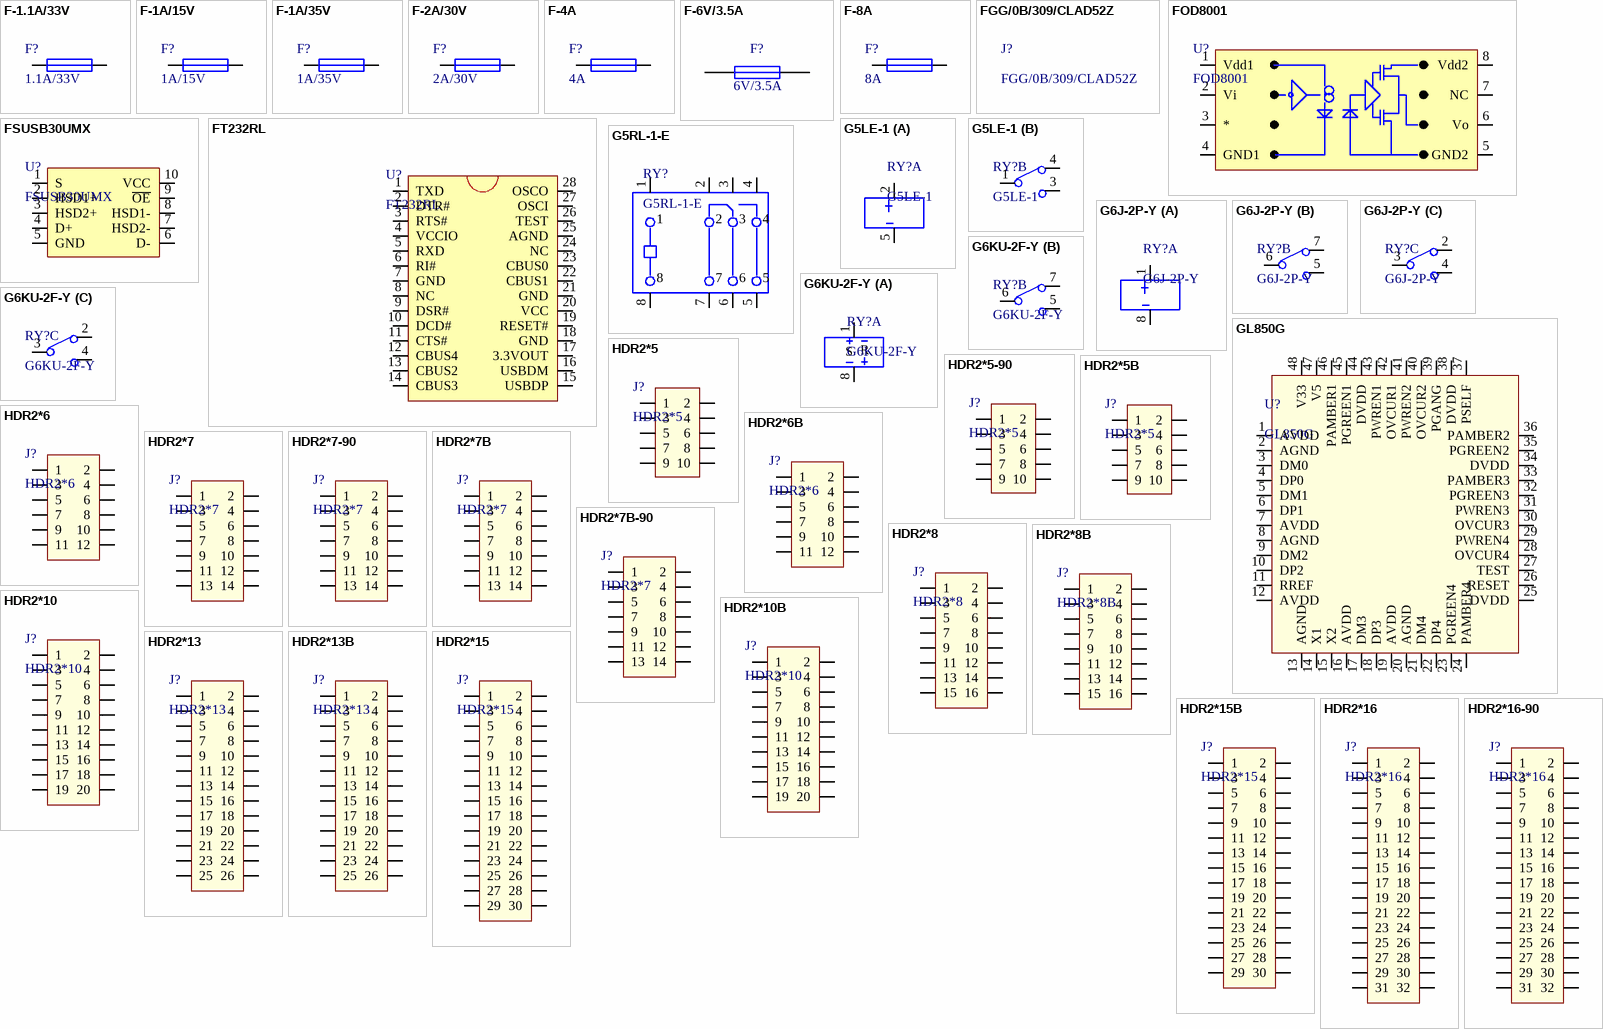
[diagram p7: symbols F-1.1A/33V to HDR2*16-90]

## F-1.1A/33V
designator F?, comment 1.1A/33V
贴片自恢复保险丝，1.1A/33V，F1812; 料号: 11001-00002-00; 品名: 保险丝
footprint F1812
pins: 1, 2

## F-1A/15V
designator F?, comment 1A/15V
贴片自恢复保险丝，1A/15V, 1206; 料号: 11001-00006-00; 品名: 保险丝
footprint F1206
pins: 1, 2

## F-1A/35V
designator F?, comment 1A/35V
贴片自恢复保险丝，1A/35V，F1812; 料号: 11001-00003-00; 品名: 保险丝
footprint F1812
pins: 1, 2

## F-2A/30V
designator F?, comment 2A/30V
贴片自恢复保险丝，2A/30V，F1812; 料号: 11001-00001-00; 品名: 保险丝
footprint F1812
pins: 1, 2

## F-4A
designator F?, comment 4A
贴片自恢复保险丝，4A F1206，2PIN; 料号: 11001-00005-00; 品名: 保险丝
footprint F1206
pins: 1, 2

## F-6V/3.5A
designator F?, comment 6V/3.5A
保险丝,6V,3.5A,慢断,1812封装; 料号: 11001-00023-00; 品名: 保险丝
footprint F1812
pins: 1, 2

## F-8A
designator F?, comment 8A
贴片自恢复保险丝，8A，F1808，2PIN; 料号: 11001-00004-00; 品名: 保险丝
footprint F1808 (Footprint not found)
pins: 1, 2

## FGG/0B/309/CLAD52Z
designator J?
料号: 10701-00102-00; 品名: 线对板连接器

## FOD8001
designator U?
光耦，FOD8001，SOP8; 料号: 10609-00004-00; 品名: 光耦
footprint SOP8 (body:6mm)
pins: 1 Vdd1, 2 Vi, 3 *, 4 GND1, 5 GND2, 6 Vo, 7 NC, 8 Vdd2

## FSUSB30UMX
designator U?
IC，FSUSB30UMX，SSOP10; 料号: 10606-00001-5K; 品名: 接口芯片
footprint SSOP10
pins: 1 S, 2 HSD1+, 3 HSD2+, 4 D+, 5 GND (power), 6 D-, 7 HSD2-, 8 HSD1-, 9 ~{OE}, 10 VCC (power)

## FT232RL
designator U?
IC，FT232RL，SSOP28; 料号: 10606-00009-3K; 品名: 接近芯片
footprint SSOP28
pins: 1 TXD, 2 DTR#, 3 RTS#, 4 VCCIO, 5 RXD, 6 RI#, 7 GND, 8 NC, 9 DSR#, 10 DCD#, 11 CTS#, 12 CBUS4, 13 CBUS2, 14 CBUS3, 15 USBDP, 16 USBDM, 17 3.3VOUT, 18 GND, 19 RESET#, 20 VCC, 21 GND, 22 CBUS1, 23 CBUS0, 24 NC, 25 AGND, 26 TEST, 27 OSCI, 28 OSCO

## G5LE-1
designator RY?
继电器，直插，OMRON G5LE-1; 料号: 10902-00001-41; 品名: 功率继电器
footprint G5LE-1
part A pins: 2, 5
part B pins: 1, 3, 4

## G5RL-1-E
designator RY?
继电器，直插，OMRON G5RL-1-E,29*12.7*15.7mm; 料号: 10902-00002-41; 品名: 功率继电器
footprint G5RL-1-E
pins: 1, 2, 3, 4, 5, 6, 7, 8

## G6J-2P-Y
designator RY?
继电器，直插，OMRON G6J-2P-Y-5VDC,10.6*5.7*9mm; 料号: 10901-00001-41; 品名: 信号继电器
footprint G6J-2P-Y
part A pins: 1, 8
part B pins: 5, 6, 7
part C pins: 2, 3, 4

## G6KU-2F-Y
designator RY?
继电器，贴片，  G6KU-2F-Y-5VDC, 10*5.2*6.5mm，OMRON; 料号: 10901-00005-41; 品名: 信号继电器
footprint G6KU-2F-Y
part A pins: 1, 8
part B pins: 5, 6, 7
part C pins: 2, 3, 4
part A text: S; R

## GL850G
designator U?
IC，GL850G,QFN-28; 料号: 10606-00010-00; 品名: 接口芯片
footprint LQFP48
pins: 1 AVDD, 2 AGND, 3 DM0, 4 DP0, 5 DM1, 6 DP1, 7 AVDD, 8 AGND, 9 DM2, 10 DP2, 11 RREF, 12 AVDD, 13 AGND, 14 X1, 15 X2, 16 AVDD, 17 DM3, 18 DP3, 19 AVDD, 20 AGND, 21 DM4, 22 DP4, 23 PGREEN4, 24 PAMBER4, 25 DVDD, 26 RESET, 27 TEST, 28 OVCUR4, 29 PWREN4, 30 OVCUR3, 31 PWREN3, 32 PGREEN3, 33 PAMBER3, 34 DVDD, 35 PGREEN2, 36 PAMBER2, 37 PSELF, 38 DVDD, 39 PGANG, 40 OVCUR2, 41 PWREN2, 42 OVCUR1, 43 PWREN1, 44 DVDD, 45 PGREEN1, 46 PAMBER1, 47 V5, 48 V33

## HDR2*5
designator J?
牛角连接器,简牛插座,2*5,2.54mm; 料号: 10704-00001-00; 品名: 牛角连接器
footprint HDR2×5
pins: 1, 2, 3, 4, 5, 6, 7, 8, 9, 10